# Altium schematic symbol library IC.SchLib: 311 symbols (part 1 of 3)
Pins are listed as number, name and electrical type; pins without a type are passive.

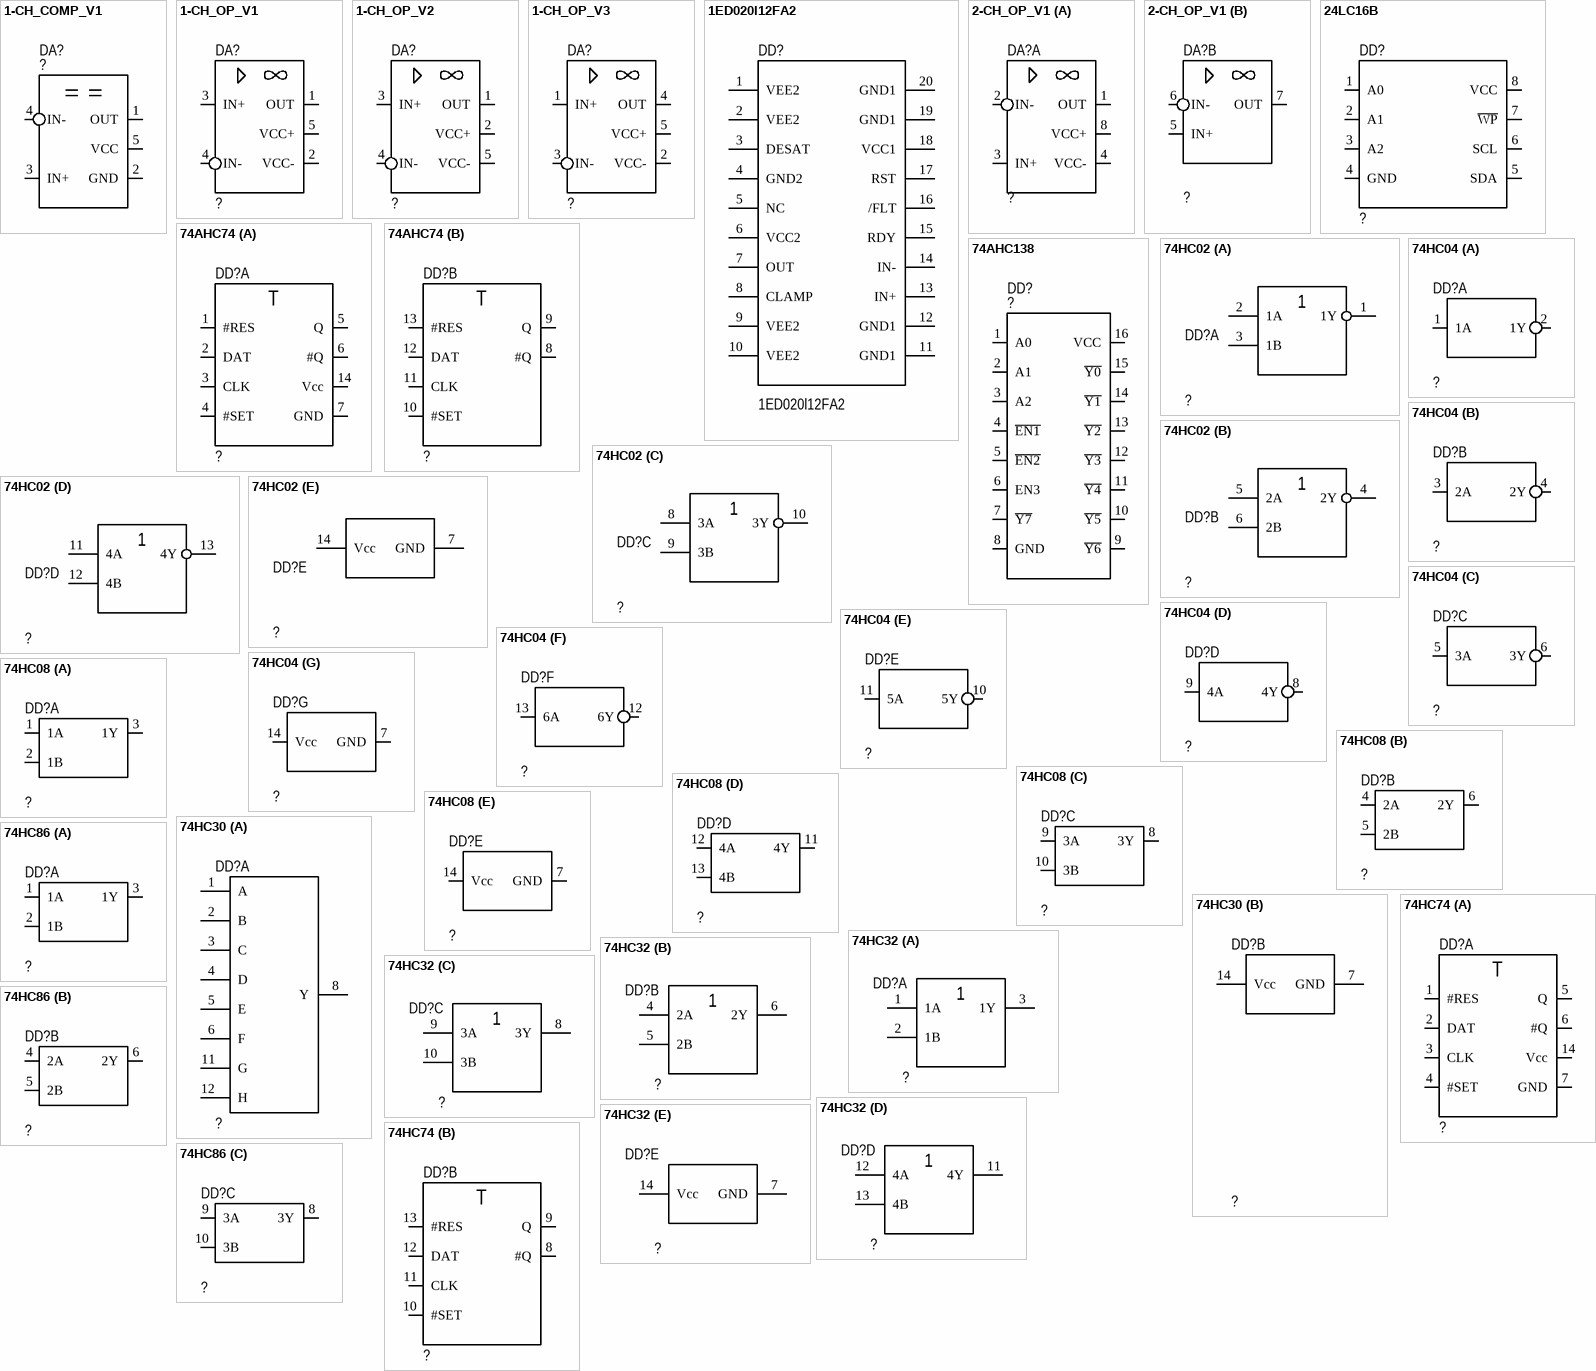
[diagram p0: symbols 1-CH_COMP_V1 to 74HC86]

## 1-CH_COMP_V1
designator DA?, comment ?
pins: 1 OUT, 2 GND, 3 IN+, 4 IN-, 5 VCC
1 alternate drawing of the same symbol

## 1-CH_OP_V1
designator DA?, comment ?
ОУ
pins: 1 OUT, 2 VСС-, 3 IN+, 4 IN-, 5 VСС+
1 alternate drawing of the same symbol

## 1-CH_OP_V2
designator DA?, comment ?
ОУ
pins: 1 OUT, 2 VСС+, 3 IN+, 4 IN-, 5 VСС-
1 alternate drawing of the same symbol

## 1-CH_OP_V3
designator DA?, comment ?
ОУ
pins: 1 IN+, 2 VСС-, 3 IN-, 4 OUT, 5 VСС+
1 alternate drawing of the same symbol

## 1ED020l12FA2
designator DD?
Manufacturer: Analog Device; Type: ADuM1401ARW
pins: 1 VEE2, 2 VEE2, 3 DESAT, 4 GND2, 5 NC, 6 VCC2, 7 OUT, 8 CLAMP, 9 VEE2, 10 VEE2, 11 GND1, 12 GND1, 13 IN+, 14 IN-, 15 RDY, 16 /FLT, 17 RST, 18 VCC1, 19 GND1, 20 GND1

## 2-CH_OP_V1
designator DA?, comment ?
ОУ; Case/Code: SOIC-8
part A pins: 1 OUT, 2 IN-, 3 IN+, 4 VСС-, 8 VСС+
part B pins: 5 IN+, 6 IN-, 7 OUT
1 alternate drawing of the same symbol

## 24LC16B
designator DD?, comment ?
EEPROM
pins: 1 A0, 2 A1, 3 A2, 4 GND, 5 SDA, 6 SCL, 7 ~{WP}, 8  VCC

## 74AHC74
designator DD?, comment ?
D-триггер
part A pins: 1 #RES, 2 DAT, 3 CLK, 4 #SET, 5 Q, 6 #Q, 7 GND, 14 Vcc
part B pins: 8 #Q, 9 Q, 10 #SET, 11 CLK, 12 DAT, 13 #RES
part A text: T
part B text: T

## 74AHC138
designator DD?, comment ?
Мультиплексор; Mfr_Name: Texas Instruments; Manufacturer_Part_Number: SN74AHC138PWR; Copyright: Copyright (C) 2023 Ultra Librarian. All rights reserved.; RefDes: RefDes; Type: DEV
footprint PW16
pins: 1 A0, 2 A1, 3 A2, 4 ~{EN1}, 5 ~{EN2}, 6 EN3, 7 ~{Y7}, 8 GND, 9 ~{Y6}, 10 ~{Y5}, 11 ~{Y4}, 12 ~{Y3}, 13 ~{Y2}, 14 ~{Y1}, 15 ~{Y0}, 16 VCC

## 74HC02
designator DD?, comment ?
part A pins: 1 1Y, 2 1A, 3 1B
part B pins: 4 2Y, 5 2A, 6 2B
part C pins: 8 3A, 9 3B, 10 3Y
part D pins: 11 4A, 12 4B, 13 4Y
part E pins: 7 GND, 14 Vcc
2 alternate drawings of the same symbol

## 74HC04
designator DD?, comment ?
part A pins: 1 1A, 2 1Y
part B pins: 3 2A, 4 2Y
part C pins: 5 3A, 6 3Y
part D pins: 8 4Y, 9 4A
part E pins: 10 5Y, 11 5A
part F pins: 12 6Y, 13 6A
part G pins: 7 GND, 14 Vcc
2 alternate drawings of the same symbol

## 74HC08
designator DD?, comment ?
part A pins: 1 1A, 2 1B, 3 1Y
part B pins: 4 2A, 5 2B, 6 2Y
part C pins: 8 3Y, 9 3A, 10 3B
part D pins: 11 4Y, 12 4A, 13 4B
part E pins: 7 GND, 14 Vcc
2 alternate drawings of the same symbol

## 74HC30
designator DD?, comment ?
part A pins: 1 A, 2 B, 3 C, 4 D, 5 E, 6 F, 8 Y, 11 G, 12 H
part B pins: 7 GND, 14 Vcc
2 alternate drawings of the same symbol

## 74HC32
designator DD?, comment ?
part A pins: 1 1A, 2 1B, 3 1Y
part B pins: 4 2A, 5 2B, 6 2Y
part C pins: 8 3Y, 9 3A, 10 3B
part D pins: 11 4Y, 12 4A, 13 4B
part E pins: 7 GND, 14 Vcc
2 alternate drawings of the same symbol

## 74HC74
designator DD?, comment ?
D-триггер
part A pins: 1 #RES, 2 DAT, 3 CLK, 4 #SET, 5 Q, 6 #Q, 7 GND, 14 Vcc
part B pins: 8 #Q, 9 Q, 10 #SET, 11 CLK, 12 DAT, 13 #RES
part A text: T
part B text: T

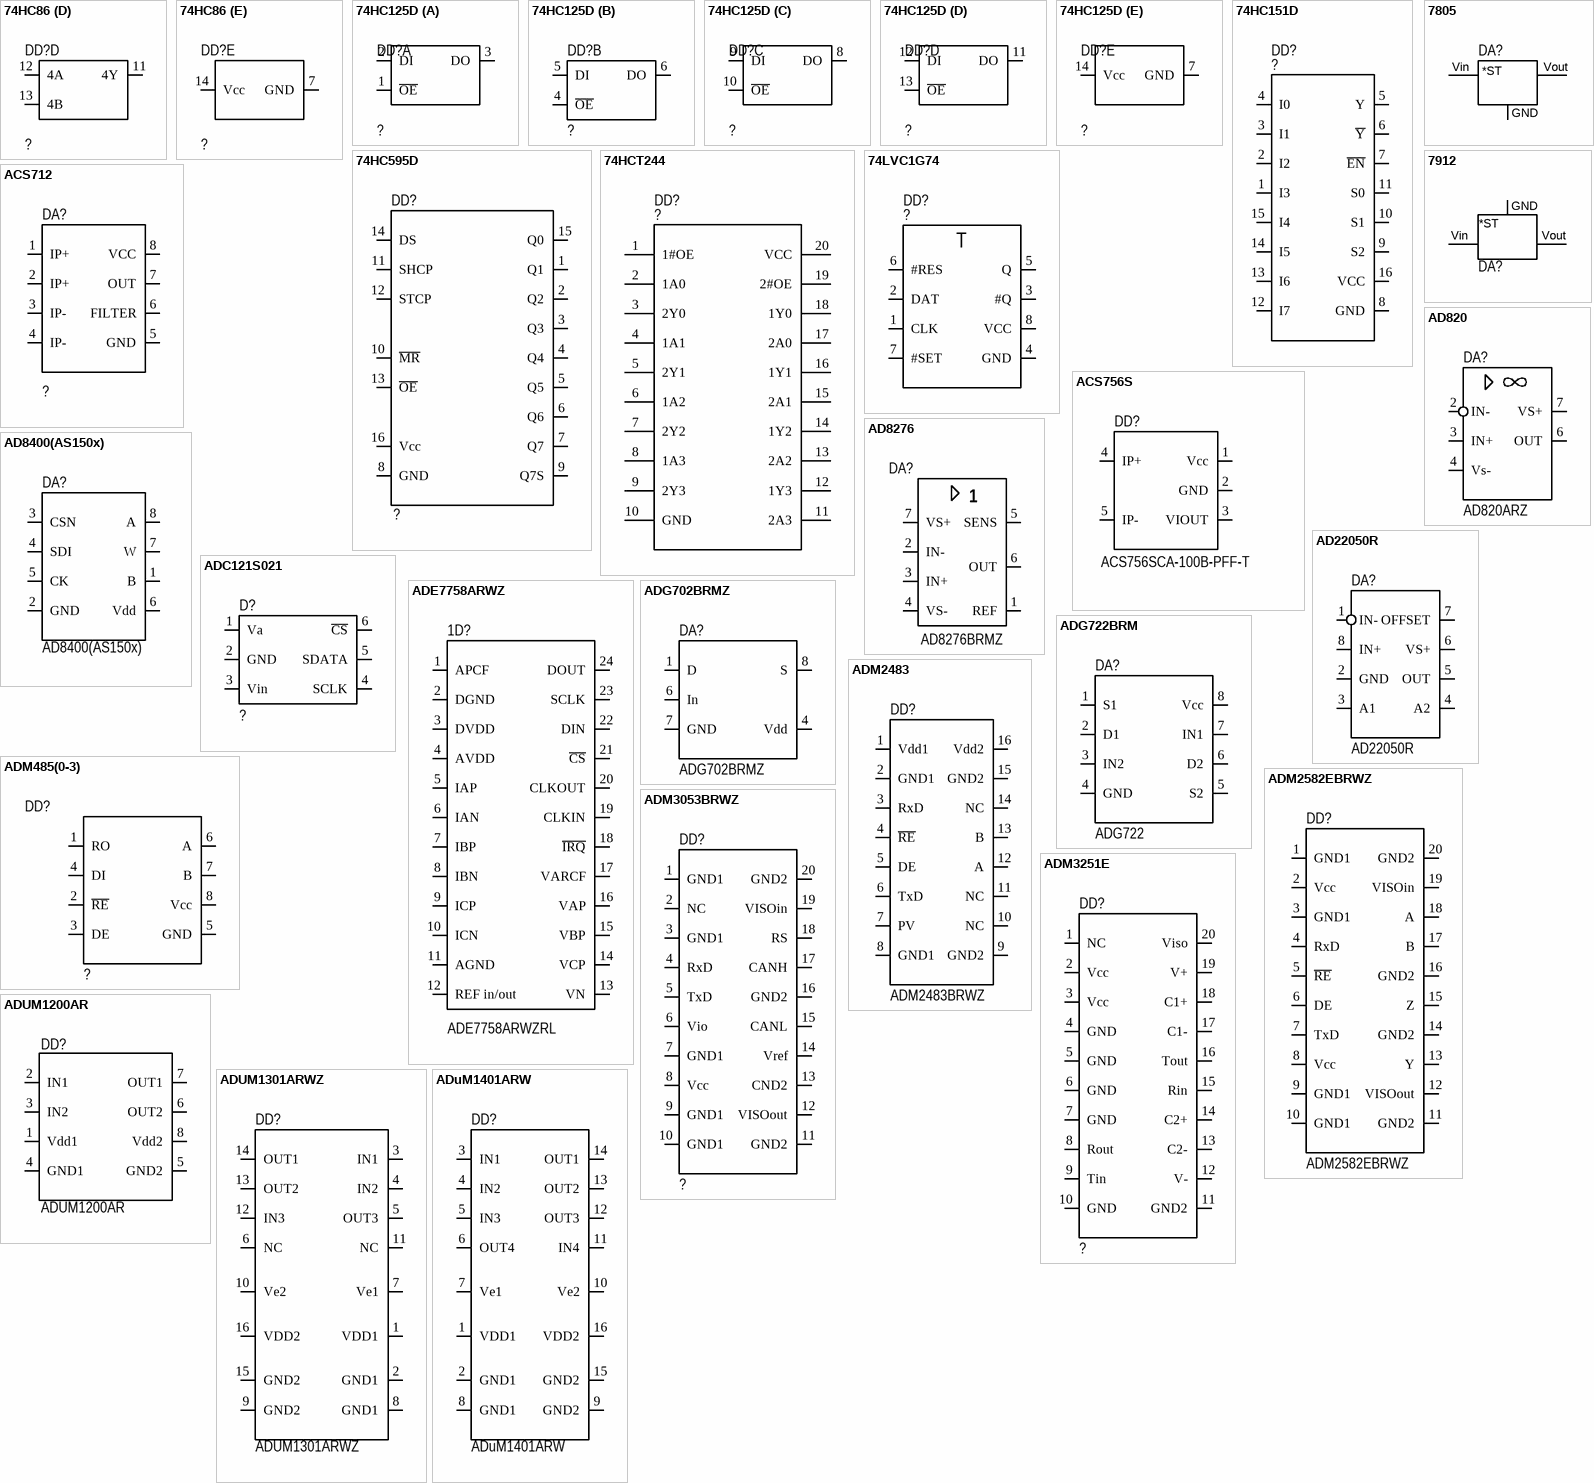
[diagram p1: symbols 74HC86 to ADuM1401ARW]

## 74HC86
designator DD?, comment ?
part A pins: 1 1A, 2 1B, 3 1Y
part B pins: 4 2A, 5 2B, 6 2Y
part C pins: 8 3Y, 9 3A, 10 3B
part D pins: 11 4Y, 12 4A, 13 4B
part E pins: 7 GND, 14 Vcc
2 alternate drawings of the same symbol

## 74HC125D
designator DD?, comment ?
part A pins: 1 ~{OE}, 2 DI, 3 DO
part B pins: 4 ~{OE}, 5 DI, 6 DO
part C pins: 8 DO, 9 DI, 10 ~{OE}
part D pins: 11 DO, 12 DI, 13 ~{OE}
part E pins: 7 GND, 14 Vcc
2 alternate drawings of the same symbol

## 74HC151D
designator DD?, comment ?
Mfr_Name: Nexperia; Manufacturer_Part_Number: 74HC151D; Copyright: Copyright (C) 2023 Ultra Librarian. All rights reserved.; RefDes: RefDes; Type: DEV
pins: 1 I3, 2 I2, 3 I1, 4 I0, 5 Y, 6 ~{Y}, 7 ~{EN}, 8 GND, 9 S2, 10 S1, 11 S0, 12 I7, 13 I6, 14 I5, 15 I4, 16 VCC

## 74HC595D
designator DD?, comment ?
Name: Микросхема
pins: 1 Q1, 2 Q2, 3 Q3, 4 Q4, 5 Q5, 6 Q6, 7 Q7, 8 GND, 9 Q7S, 10 ~{MR}, 11 SHCP, 12 STCP, 13 ~{OE}, 14 DS, 15 Q0, 16 Vcc

## 74HCT244
designator DD?, comment ?
Octal buffer/line driver; 3-state
pins: 1 1#OE, 2 1A0, 3 2Y0, 4 1A1, 5 2Y1, 6 1A2, 7 2Y2, 8 1A3, 9 2Y3, 10 GND, 11 2A3, 12 1Y3, 13 2A2, 14 1Y2, 15 2A1, 16 1Y1, 17 2A0, 18 1Y0, 19 2#OE, 20 VCC

## 74LVC1G74
designator DD?, comment ?
pins: 1 CLK, 2 DAT, 3 #Q, 4 GND, 5 Q, 6 #RES, 7 #SET, 8 VCC
1 alternate drawing of the same symbol
text: T

## 7805
designator DA?  (value not drawn)
footprint TO-220
footprint TO-220_L
footprint TO-263-3
footprint TO-252-3
pins: 1, 2, 3
text: Vin; *ST; Vout; GND

## 7912
designator DA?  (value not drawn)
footprint TO-220
footprint TO-220_L
footprint TO-263-3
footprint TO-252-3
pins: 1 GND, 2 Vin, 3 Vout
text: *ST

## ACS712
designator DA?, comment ?
pins: 1 IP+ "Noninverting Receiver Input A/Driver Output A", 2 IP+ "5 V Power Supply", 3 IP- "Ground", 4 IP- "Receiver Output", 5 GND "Driver Output Enable", 6 FILTER "Driver Output Enable", 7 OUT "Driver Output Enable", 8 VCC "Driver Output Enable"

## ACS756S
designator DD?, comment ACS756SCA-100B-PFF-T
footprint Package CA(PFF,5pin)
pins: 1 Vcc "Noninverting Receiver Input A/Driver Output A", 2 GND "5 V Power Supply", 3 VIOUT "Ground", 4 IP+ "Receiver Output", 5 IP- "Driver Output Enable"

## AD820
designator DA?, comment AD820ARZ
Операционный усилитель, однополярное питание, Rail-to-Rail,  Low Power, FET Input Op Amp
footprint MSOP8
footprint SO8_2 (SOIC, 8-Leads, Body 4.9x3.9mm, Pitch 1.27mm, IPC Medium Density)
pins: 2 IN-, 3 IN+, 4 Vs-, 6 OUT (oc), 7 VS+

## AD8276
designator DA?, comment AD8276BRMZ
Дифференциальный усилитель
footprint MSOP8
pins: 1 REF, 2 IN-, 3 IN+, 4 VS-, 5 SENS, 6 OUT (oc), 7 VS+

## AD8400(AS150x)
designator DA?
Type: SO-8
footprint SO8_2 (SOIC, 8-Leads, Body 4.9x3.9mm, Pitch 1.27mm, IPC Medium Density)
footprint DIP-8
pins: 1 B "Receiver Output", 2 GND "Receiver Output Enable", 3 CSN "Driver Output Enable", 4 SDI "Driver Input", 5 CK "Ground", 6 Vdd "5 V Power Supply", 7 W "Noninverting Receiver Input A/Driver Output A", 8 A "Inverting Receiver Input B/Driver Output B"

## AD22050R
designator DA?
pins: 1 IN-, 2 GND, 3 A1, 4 A2, 5 OUT (oc), 6 VS+, 7 OFFSET, 8 IN+

## ADC121S021
designator D?, comment ?
footprint SOT-23-5(3-2)
pins: 1 Va, 2 GND, 3 Vin, 4 SCLK, 5 SDATA, 6 ~{CS}

## ADE7758ARWZ
designator 1D?, comment ADE7758ARWZRL
ComponentLink1Description: DataSheet (TI); ComponentLink1URL: http://www.ti.com/lit/ds/symlink/am26ls31.pdf
pins: 1 APCF, 2 DGND, 3 DVDD, 4 AVDD, 5 IAP, 6 IAN, 7 IBP, 8 IBN, 9 ICP, 10 ICN, 11 AGND, 12 REF in/out, 13 VN, 14 VCP, 15 VBP, 16 VAP, 17 VARCF, 18 ~{IRQ}, 19 CLKIN, 20 CLKOUT, 21 ~{CS}, 22 DIN, 23 SCLK, 24 DOUT

## ADG702BRMZ
designator DA?
Низковольтный однополюсный однопозиционный переключатель; Type: MSOP-8
footprint MSOP8
pins: 1 D, 4 Vdd, 6 In, 7 GND, 8 S

## ADG722BRM
designator DA?, comment ADG722
Manufacturer: Analog Device; Type: ADG722BRM
footprint MSOP8
pins: 1 S1 "Driver Input", 2 D1 "Ground", 3 IN2 "Ground", 4 GND "Ground", 5 S2 "Ground", 6 D2 "Ground", 7 IN1 "Ground", 8 Vcc "Ground"

## ADM485(0-3)
designator DD?, comment ?
pins: 1 RO "Receiver Output", 2 ~{RE} "Receiver Output Enable", 3 DE "Driver Output Enable", 4 DI "Driver Input", 5 GND "Ground", 6 A "Noninverting Receiver Input A/Driver Output A", 7 B "Inverting Receiver Input B/Driver Output B", 8 Vcc "5 V Power Supply"
1 alternate drawing of the same symbol

## ADM2483
designator DD?, comment ADM2483BRWZ
Type: SOICW-16
footprint WSO16 (SOIC, 16-Leads, Body 10.3x7.5mm, Pitch 1.27mm)
pins: 1 Vdd1 "Receiver Output", 2 GND1 "Receiver Output Enable", 3 RxD "Driver Input", 4 ~{RE} "Receiver Output Enable", 5 DE "Driver Output Enable", 6 TxD "Driver Input", 7 PV "Driver Input", 8 GND1 "Ground", 9 GND2 "Ground", 10 NC "Driver Input", 11 NC "Driver Input", 12 A "Noninverting Receiver Input A/Driver Output A", 13 B "Inverting Receiver Input B/Driver Output B", 14 NC "Driver Input", 15 GND2 "Ground", 16 Vdd2 "5 V Power Supply"
1 alternate drawing of the same symbol

## ADM2582EBRWZ
designator DD?
Type: SOICW-16
footprint WSO20_2 (SOIC, 20-Leads, Body 10.3x7.5mm, Pitch 1.27mm)
pins: 1 GND1 "Receiver Output", 2 Vcc "Receiver Output Enable", 3 GND1 "Driver Input", 4 RxD "Receiver Output Enable", 5 ~{RE} "Driver Output Enable", 6 DE "Driver Input", 7 TxD "Driver Input", 8 Vcc "Ground", 9 GND1 "Ground", 10 GND1 "Ground", 11 GND2 "Ground", 12 VISOout "Ground", 13 Y "Ground", 14 GND2 "Ground", 15 Z "Ground", 16 GND2 "Ground", 17 B "Ground", 18 A "Ground", 19 VISOin "Ground", 20 GND2 "Ground"
1 alternate drawing of the same symbol

## ADM3053BRWZ
designator DD?, comment ?
pins: 1 GND1 "Receiver Output", 2 NC "Receiver Output Enable", 3 GND1 "Driver Input", 4 RxD "Receiver Output Enable", 5 TxD "Driver Output Enable", 6 Vio "Driver Input", 7 GND1 "Driver Input", 8 Vcc "Ground", 9 GND1 "Ground", 10 GND1 "Ground", 11 GND2 "Ground", 12 VISOout "Ground", 13 CND2 "Ground", 14 Vref "Ground", 15 CANL "Ground", 16 GND2 "Ground", 17 CANH "Ground", 18 RS "Ground", 19 VISOin "Ground", 20 GND2 "Ground"
1 alternate drawing of the same symbol

## ADM3251E
designator DD?, comment ?
pins: 1 NC "Receiver Output", 2 Vcc "Receiver Output Enable", 3 Vcc "Driver Input", 4 GND "Receiver Output Enable", 5 GND "Receiver Output Enable", 6 GND "Receiver Output Enable", 7 GND "Receiver Output Enable", 8 Rout "Ground", 9 Tin "Ground", 10 GND "Ground", 11 GND2 "Ground", 12 V- "Ground", 13 C2- "Ground", 14 C2+ "Ground", 15 Rin "Ground", 16 Tout "Ground", 17 C1- "Ground", 18 C1+ "Ground", 19 V+ "Ground", 20 Viso "Ground"
1 alternate drawing of the same symbol

## ADUM1200AR
designator DD?
Dual-Channel Digital Isolator; Type: SO-8
footprint SO8_2 (SOIC, 8-Leads, Body 4.9x3.9mm, Pitch 1.27mm, IPC Medium Density)
pins: 1 Vdd1, 2 IN1 (power), 3 IN2 (power), 4 GND1, 5 GND2, 6 OUT2 (oc), 7 OUT1, 8 Vdd2

## ADUM1301ARWZ
designator DD?
Трехканальный цифровой изолятор; Manufacturer: Analog Device; Type: ADUM1301ARWZ
footprint WSO16 (SOIC, 16-Leads, Body 10.3x7.5mm, Pitch 1.27mm)
pins: 1 VDD1, 2 GND1, 3 IN1, 4 IN2, 5 OUT3, 6 NC, 7 Ve1, 8 GND1, 9 GND2, 10 Ve2, 11 NC, 12 IN3, 13 OUT2, 14 OUT1, 15 GND2, 16 VDD2

## ADuM1401ARW
designator DD?
Manufacturer: Analog Device; Type: ADuM1401ARW
footprint WSO16 (SOIC, 16-Leads, Body 10.3x7.5mm, Pitch 1.27mm)
pins: 1 VDD1, 2 GND1, 3 IN1, 4 IN2, 5 IN3, 6 OUT4, 7 Ve1, 8 GND1, 9 GND2, 10 Ve2, 11 IN4, 12 OUT3, 13 OUT2, 14 OUT1, 15 GND2, 16 VDD2

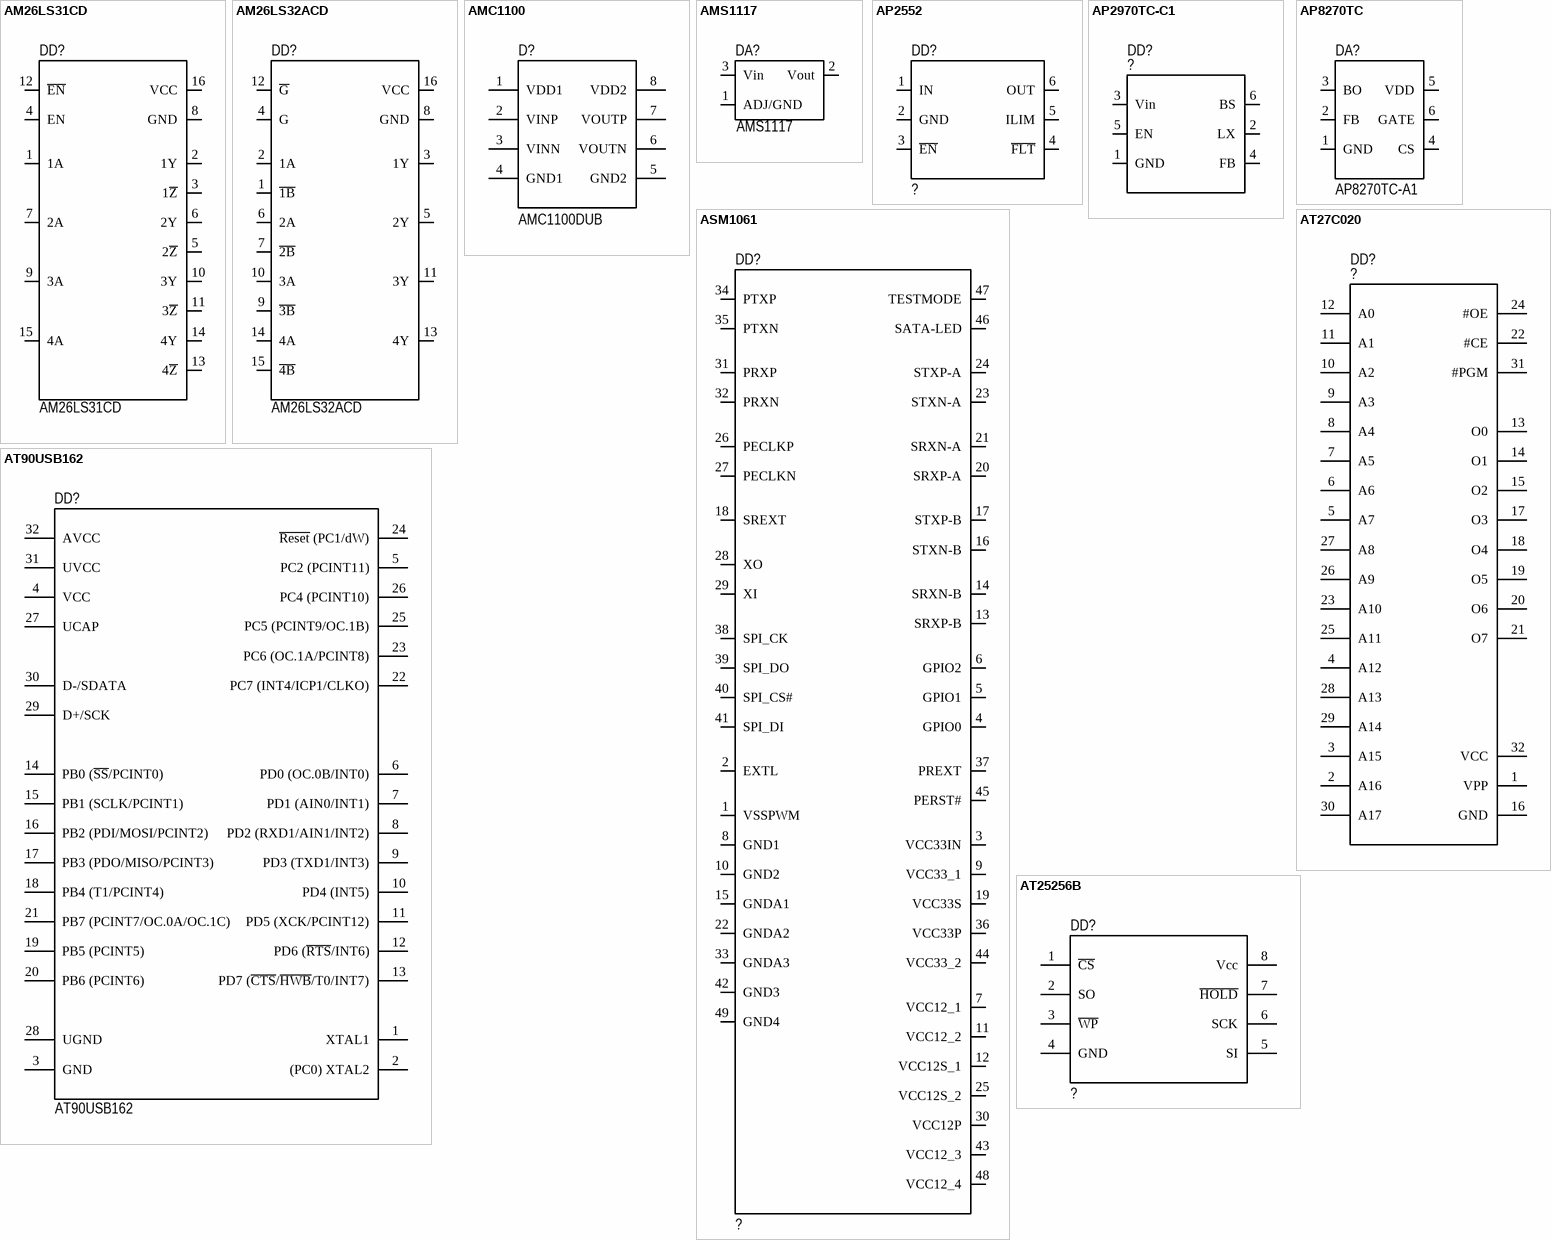
[diagram p2: symbols AM26LS31CD to AT25256B]

## AM26LS31CD
designator DD?
Драйвер дифференциальной линии 4-х канальный (RS-422); ComponentLink1Description: DataSheet (TI); ComponentLink1URL: http://www.ti.com/lit/ds/symlink/am26ls31.pdf
footprint SO16 (SO16: plastic small outline package; 16 leads; body width 3.9 mm)
pins: 1 1A, 2 1Y, 3 1~{Z}, 4 EN, 5 2~{Z}, 6 2Y, 7 2A, 8 GND, 9 3A, 10 3Y, 11 3~{Z}, 12 ~{EN}, 13 4~{Z}, 14 4Y, 15 4A, 16 VCC

## AM26LS32ACD
designator DD?
Драйвер дифференциальной линии 4-х канальный (RS-422) (приемник); ComponentLink1Description: DataSheet (TI); ComponentLink1URL: http://www.ti.com/lit/ds/symlink/am26ls31.pdf
footprint SO16 (SO16: plastic small outline package; 16 leads; body width 3.9 mm)
pins: 1 ~{1B}, 2 1A, 3 1Y, 4 G, 5 2Y, 6 2A, 7 ~{2B}, 8 GND, 9 ~{3B}, 10 3A, 11 3Y, 12 ~{G}, 13 4Y, 14 4A, 15 ~{4B}, 16 VCC

## AMC1100
designator D?, comment AMC1100DUB
pins: 1 VDD1, 2 VINP, 3 VINN, 4 GND1, 5 GND2, 6 VOUTN, 7 VOUTP, 8 VDD2

## AMS1117
designator DA?
footprint TO-252-3
footprint SOT-223
pins: 1 ADJ/GND, 2 Vout, 3 Vin

## AP2552
designator DD?, comment ?
pins: 1 IN, 2 GND, 3 ~{EN}, 4 ~{FLT}, 5 ILIM, 6 OUT

## AP2970TC-C1
designator DD?, comment ?
pins: 1 GND, 2 LX, 3 Vin, 4 FB, 5 EN, 6 BS

## AP8270TC
designator DA?, comment AP8270TC-A1
pins: 1 GND, 2 FB, 3 BO, 4 CS, 5 VDD (oc), 6 GATE

## ASM1061
designator DD?, comment ?
pins: 1 VSSPWM, 2 EXTL, 3 VCC33IN, 4 GPIO0, 5 GPIO1, 6 GPIO2, 7 VCC12_1, 8 GND1, 9 VCC33_1, 10 GND2, 11 VCC12_2, 12 VCC12S_1, 13 SRXP-B, 14 SRXN-B, 15 GNDA1, 16 STXN-B, 17 STXP-B, 18 SREXT, 19 VCC33S, 20 SRXP-A, 21 SRXN-A, 22 GNDA2, 23 STXN-A, 24 STXP-A, 25 VCC12S_2, 26 PECLKP, 27 PECLKN, 28 XO, 29 XI, 30 VCC12P, 31 PRXP, 32 PRXN, 33 GNDA3, 34 PTXP, 35 PTXN, 36 VCC33P, 37 PREXT, 38 SPI_CK, 39 SPI_DO, 40 SPI_CS#, 41 SPI_DI, 42 GND3, 43 VCC12_3, 44 VCC33_2, 45 PERST#, 46 SATA-LED, 47 TESTMODE, 48 VCC12_4, 49 GND4

## AT27C020
designator DD?, comment ?
OTP EEPROM; Mfr_Name: Microchip; Manufacturer_Part_Number: AT27C020-55PU; Copyright: Copyright (C) 2023 Ultra Librarian. All rights reserved.; RefDes: RefDes; Type: DEV
pins: 1 VPP, 2 A16, 3 A15, 4 A12, 5 A7, 6 A6, 7 A5, 8 A4, 9 A3, 10 A2, 11 A1, 12 A0, 13 O0, 14 O1, 15 O2, 16 GND, 17 O3, 18 O4, 19 O5, 20 O6, 21 O7, 22 #CE, 23 A10, 24 #OE, 25 A11, 26 A9, 27 A8, 28 A13, 29 A14, 30 A17, 31 #PGM, 32 VCC

## AT90USB162
designator DD?
footprint TQFP-32 (Thin QFP, 32-Leads, Body 7x7mm, Pitch 0.8mm, IPC Medium Density)
pins: 1 XTAL1, 2 (PC0) XTAL2, 3 GND, 4 VCC, 5 PC2 (PCINT11), 6 PD0 (OC.0B/INT0), 7 PD1 (AIN0/INT1), 8 PD2 (RXD1/AIN1/INT2), 9 PD3 (TXD1/INT3), 10 PD4 (INT5), 11 PD5 (XCK/PCINT12), 12 PD6 (~{RTS}/INT6), 13 PD7 (~{CTS}/~{HWB}/T0/INT7), 14 PB0 (~{SS}/PCINT0), 15 PB1 (SCLK/PCINT1), 16 PB2 (PDI/MOSI/PCINT2), 17 PB3 (PDO/MISO/PCINT3), 18 PB4 (T1/PCINT4), 19 PB5 (PCINT5), 20 PB6 (PCINT6), 21 PB7 (PCINT7/OC.0A/OC.1C), 22 PC7 (INT4/ICP1/CLKO), 23 PC6 (OC.1A/PCINT8), 24 ~{Reset} (PC1/dW), 25 PC5 (PCINT9/OC.1B), 26 PC4 (PCINT10), 27 UCAP, 28 UGND, 29 D+/SCK, 30 D-/SDATA, 31 UVCC, 32 AVCC

## AT25256B
designator DD?, comment ?
pins: 1 ~{CS}, 2 SO, 3 ~{WP}, 4 GND, 5 SI, 6 SCK, 7 ~{HOLD}, 8  Vcc

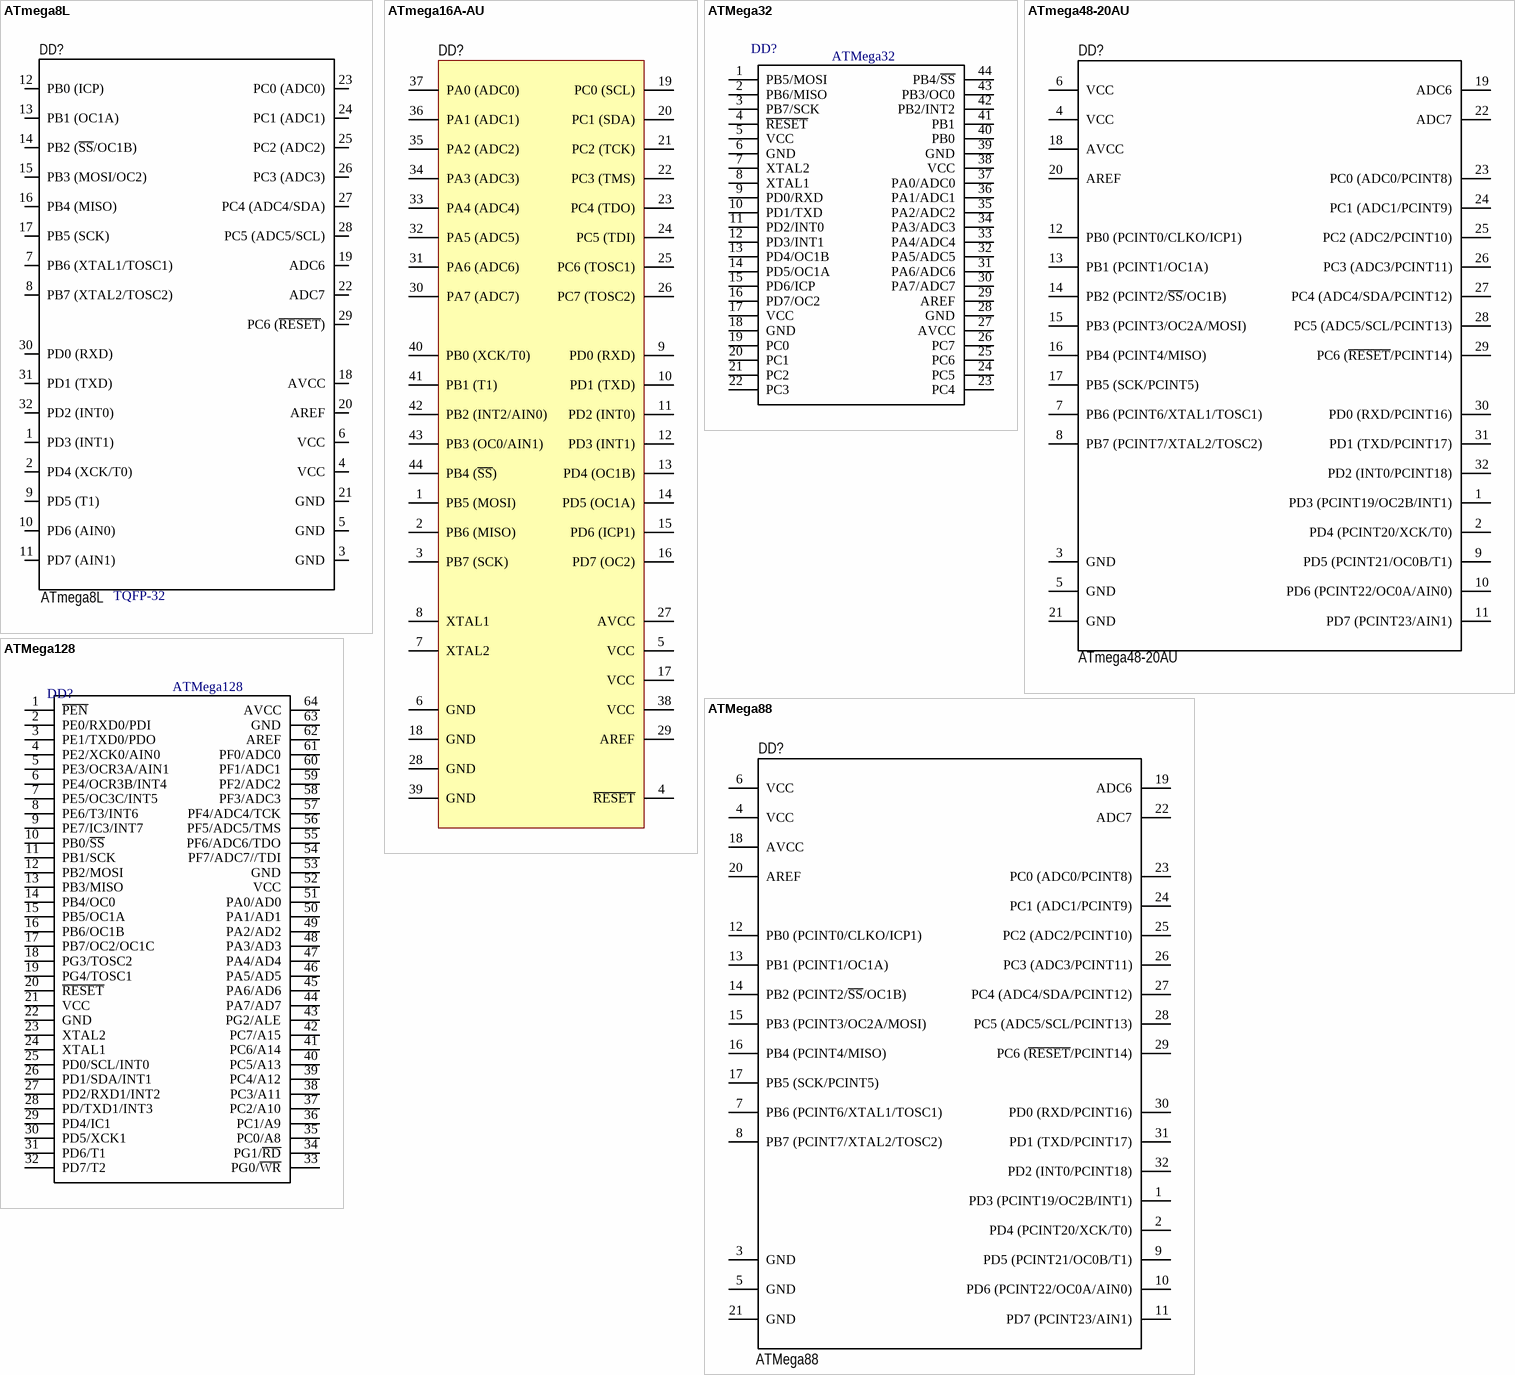
[diagram p3: symbols ATmega8L to ATMega128]

## ATmega8L
designator DD?  Type: TQFP-32
8-Bit AVR Microcontroller with 8K Bytes of In-System Programmable Flash Memory
footprint TQFP-32 (Thin QFP, 32-Leads, Body 7x7mm, Pitch 0.8mm, IPC Medium Density)
pins: 1 PD3 (INT1), 2 PD4 (XCK/T0), 3 GND, 4 VCC, 5 GND, 6 VCC, 7 PB6 (XTAL1/TOSC1), 8 PB7 (XTAL2/TOSC2), 9 PD5 (T1), 10 PD6 (AIN0), 11 PD7 (AIN1), 12 PB0 (ICP), 13 PB1 (OC1A), 14 PB2 (~{SS}/OC1B), 15 PB3 (MOSI/OC2), 16 PB4 (MISO), 17 PB5 (SCK), 18 AVCC, 19 ADC6, 20 AREF, 21 GND, 22 ADC7, 23 PC0 (ADC0), 24 PC1 (ADC1), 25 PC2 (ADC2), 26 PC3 (ADC3), 27 PC4 (ADC4/SDA), 28 PC5 (ADC5/SCL), 29 PC6 (~{RESET}), 30 PD0 (RXD), 31 PD1 (TXD), 32 PD2 (INT0)

## ATmega16A-AU
designator DD?
8-bit AVR Microcontroller, 16KB Flash, 512 Bytes EEPROM, 1KB SRAM, 44-pin TQFP, Industrial Grade (-40°C to 85°C); DatasheetVersion: revB, Jul-2009; PackageVersion: revC, Oct-2010; PackageReference: 44A; PackageDescription: 44-Pin Plastic Thin Profile Quad Flat Pack, 10 x 10 x 1.0 mm Body, 0.8 mm Pitch (TQFP); Code_JEDEC: MS-026-ACB; ComponentLink1Description: Manufacturer URL; ComponentLink1URL: http://www.atmel.com/; ComponentLink2Description: ATmega16A Datasheet; ComponentLink2URL: http://www.atmel.com/dyn/resources/prod_documents/doc8154.pdf; ComponentLink3Description: ATmega16A Summary; ComponentLink3URL: http://www.atmel.com/dyn/resources/prod_documents/8154S.pdf
footprint TQFP44
pins: 1 PB5 (MOSI), 2 PB6 (MISO), 3 PB7 (SCK), 4 ~{RESET}, 5 VCC (power), 6 GND, 7 XTAL2, 8 XTAL1, 9 PD0 (RXD), 10 PD1 (TXD), 11 PD2 (INT0), 12 PD3 (INT1), 13 PD4 (OC1B), 14 PD5 (OC1A), 15 PD6 (ICP1), 16 PD7 (OC2), 17 VCC (power), 18 GND, 19 PC0 (SCL), 20 PC1 (SDA), 21 PC2 (TCK), 22 PC3 (TMS), 23 PC4 (TDO), 24 PC5 (TDI), 25 PC6 (TOSC1), 26 PC7 (TOSC2), 27 AVCC (power), 28 GND, 29 AREF (power), 30 PA7 (ADC7), 31 PA6 (ADC6), 32 PA5 (ADC5), 33 PA4 (ADC4), 34 PA3 (ADC3), 35 PA2 (ADC2), 36 PA1 (ADC1), 37 PA0 (ADC0), 38 VCC (power), 39 GND, 40 PB0 (XCK/T0), 41 PB1 (T1), 42 PB2 (INT2/AIN0), 43 PB3 (OC0/AIN1), 44 PB4 (~{SS})

## ATMega32
designator DD?  value ATMega32  (hidden comment: *)
footprint TQFP44
pins: 1 PB5/MOSI, 2 PB6/MISO, 3 PB7/SCK, 4 ~{RESET}, 5 VCC, 6 GND, 7 XTAL2, 8 XTAL1, 9 PD0/RXD, 10 PD1/TXD, 11 PD2/INT0, 12 PD3/INT1, 13 PD4/OC1B, 14 PD5/OC1A, 15 PD6/ICP, 16 PD7/OC2, 17 VCC, 18 GND, 19 PC0, 20 PC1, 21 PC2, 22 PC3, 23 PC4, 24 PC5, 25 PC6, 26 PC7, 27 AVCC, 28 GND, 29 AREF, 30 PA7/ADC7, 31 PA6/ADC6, 32 PA5/ADC5, 33 PA4/ADC4, 34 PA3/ADC3, 35 PA2/ADC2, 36 PA1/ADC1, 37 PA0/ADC0, 38 VCC, 39 GND, 40 PB0, 41 PB1, 42 PB2/INT2, 43 PB3/OC0, 44 PB4/~{SS}

## ATmega48-20AU
designator DD?
8-bit AVR Microcontroller, 2.7-5.5V, 20MHz, 4KB Flash, 256 Bytes EEPROM, 512 Bytes SRAM, 32-pin TQFP, Industrial Grade (-40°C to 85°C); Type: TQFP-32
footprint TQFP32
pins: 1 PD3 (PCINT19/OC2B/INT1), 2 PD4 (PCINT20/XCK/T0), 3 GND (power), 4 VCC (power), 5 GND (power), 6 VCC (power), 7 PB6 (PCINT6/XTAL1/TOSC1), 8 PB7 (PCINT7/XTAL2/TOSC2), 9 PD5 (PCINT21/OC0B/T1), 10 PD6 (PCINT22/OC0A/AIN0), 11 PD7 (PCINT23/AIN1), 12 PB0 (PCINT0/CLKO/ICP1), 13 PB1 (PCINT1/OC1A), 14 PB2 (PCINT2/~{SS}/OC1B), 15 PB3 (PCINT3/OC2A/MOSI), 16 PB4 (PCINT4/MISO), 17 PB5 (SCK/PCINT5), 18 AVCC (power), 19 ADC6, 20 AREF, 21 GND (power), 22 ADC7, 23 PC0 (ADC0/PCINT8), 24 PC1 (ADC1/PCINT9), 25 PC2 (ADC2/PCINT10), 26 PC3 (ADC3/PCINT11), 27 PC4 (ADC4/SDA/PCINT12), 28 PC5 (ADC5/SCL/PCINT13), 29 PC6 (~{RESET}/PCINT14), 30 PD0 (RXD/PCINT16), 31 PD1 (TXD/PCINT17), 32 PD2 (INT0/PCINT18)

## ATMega88
designator DD?  value ATMega88
footprint TQFP32
pins: 1 PD3 (PCINT19/OC2B/INT1), 2 PD4 (PCINT20/XCK/T0), 3 GND (power), 4 VCC (power), 5 GND (power), 6 VCC (power), 7 PB6 (PCINT6/XTAL1/TOSC1), 8 PB7 (PCINT7/XTAL2/TOSC2), 9 PD5 (PCINT21/OC0B/T1), 10 PD6 (PCINT22/OC0A/AIN0), 11 PD7 (PCINT23/AIN1), 12 PB0 (PCINT0/CLKO/ICP1), 13 PB1 (PCINT1/OC1A), 14 PB2 (PCINT2/~{SS}/OC1B), 15 PB3 (PCINT3/OC2A/MOSI), 16 PB4 (PCINT4/MISO), 17 PB5 (SCK/PCINT5), 18 AVCC (power), 19 ADC6, 20 AREF, 21 GND (power), 22 ADC7, 23 PC0 (ADC0/PCINT8), 24 PC1 (ADC1/PCINT9), 25 PC2 (ADC2/PCINT10), 26 PC3 (ADC3/PCINT11), 27 PC4 (ADC4/SDA/PCINT12), 28 PC5 (ADC5/SCL/PCINT13), 29 PC6 (~{RESET}/PCINT14), 30 PD0 (RXD/PCINT16), 31 PD1 (TXD/PCINT17), 32 PD2 (INT0/PCINT18)

## ATMega128
designator DD?  value ATMega128  (hidden comment: *)
footprint TQFP64
pins: 1 ~{PEN}, 2 PE0/RXD0/PDI, 3 PE1/TXD0/PDO, 4 PE2/XCK0/AIN0, 5 PE3/OCR3A/AIN1, 6 PE4/OCR3B/INT4, 7 PE5/OC3C/INT5, 8 PE6/T3/INT6, 9 PE7/IC3/INT7, 10 PB0/~{SS}, 11 PB1/SCK, 12 PB2/MOSI, 13 PB3/MISO, 14 PB4/OC0, 15 PB5/OC1A, 16 PB6/OC1B, 17 PB7/OC2/OC1C, 18 PG3/TOSC2, 19 PG4/TOSC1, 20 ~{RESET}, 21 VCC, 22 GND, 23 XTAL2, 24 XTAL1, 25 PD0/SCL/INT0, 26 PD1/SDA/INT1, 27 PD2/RXD1/INT2, 28 PD/TXD1/INT3, 29 PD4/IC1, 30 PD5/XCK1, 31 PD6/T1, 32 PD7/T2, 33 PG0/~{WR}, 34 PG1/~{RD}, 35 PC0/A8, 36 PC1/A9, 37 PC2/A10, 38 PC3/A11, 39 PC4/A12, 40 PC5/A13, 41 PC6/A14, 42 PC7/A15, 43 PG2/ALE, 44 PA7/AD7, 45 PA6/AD6, 46 PA5/AD5, 47 PA4/AD4, 48 PA3/AD3, 49 PA2/AD2, 50 PA1/AD1, 51 PA0/AD0, 52 VCC, 53 GND, 54 PF7/ADC7//TDI, 55 PF6/ADC6/TDO, 56 PF5/ADC5/TMS, 57 PF4/ADC4/TCK, 58 PF3/ADC3, 59 PF2/ADC2, 60 PF1/ADC1, 61 PF0/ADC0, 62 AREF, 63 GND, 64 AVCC

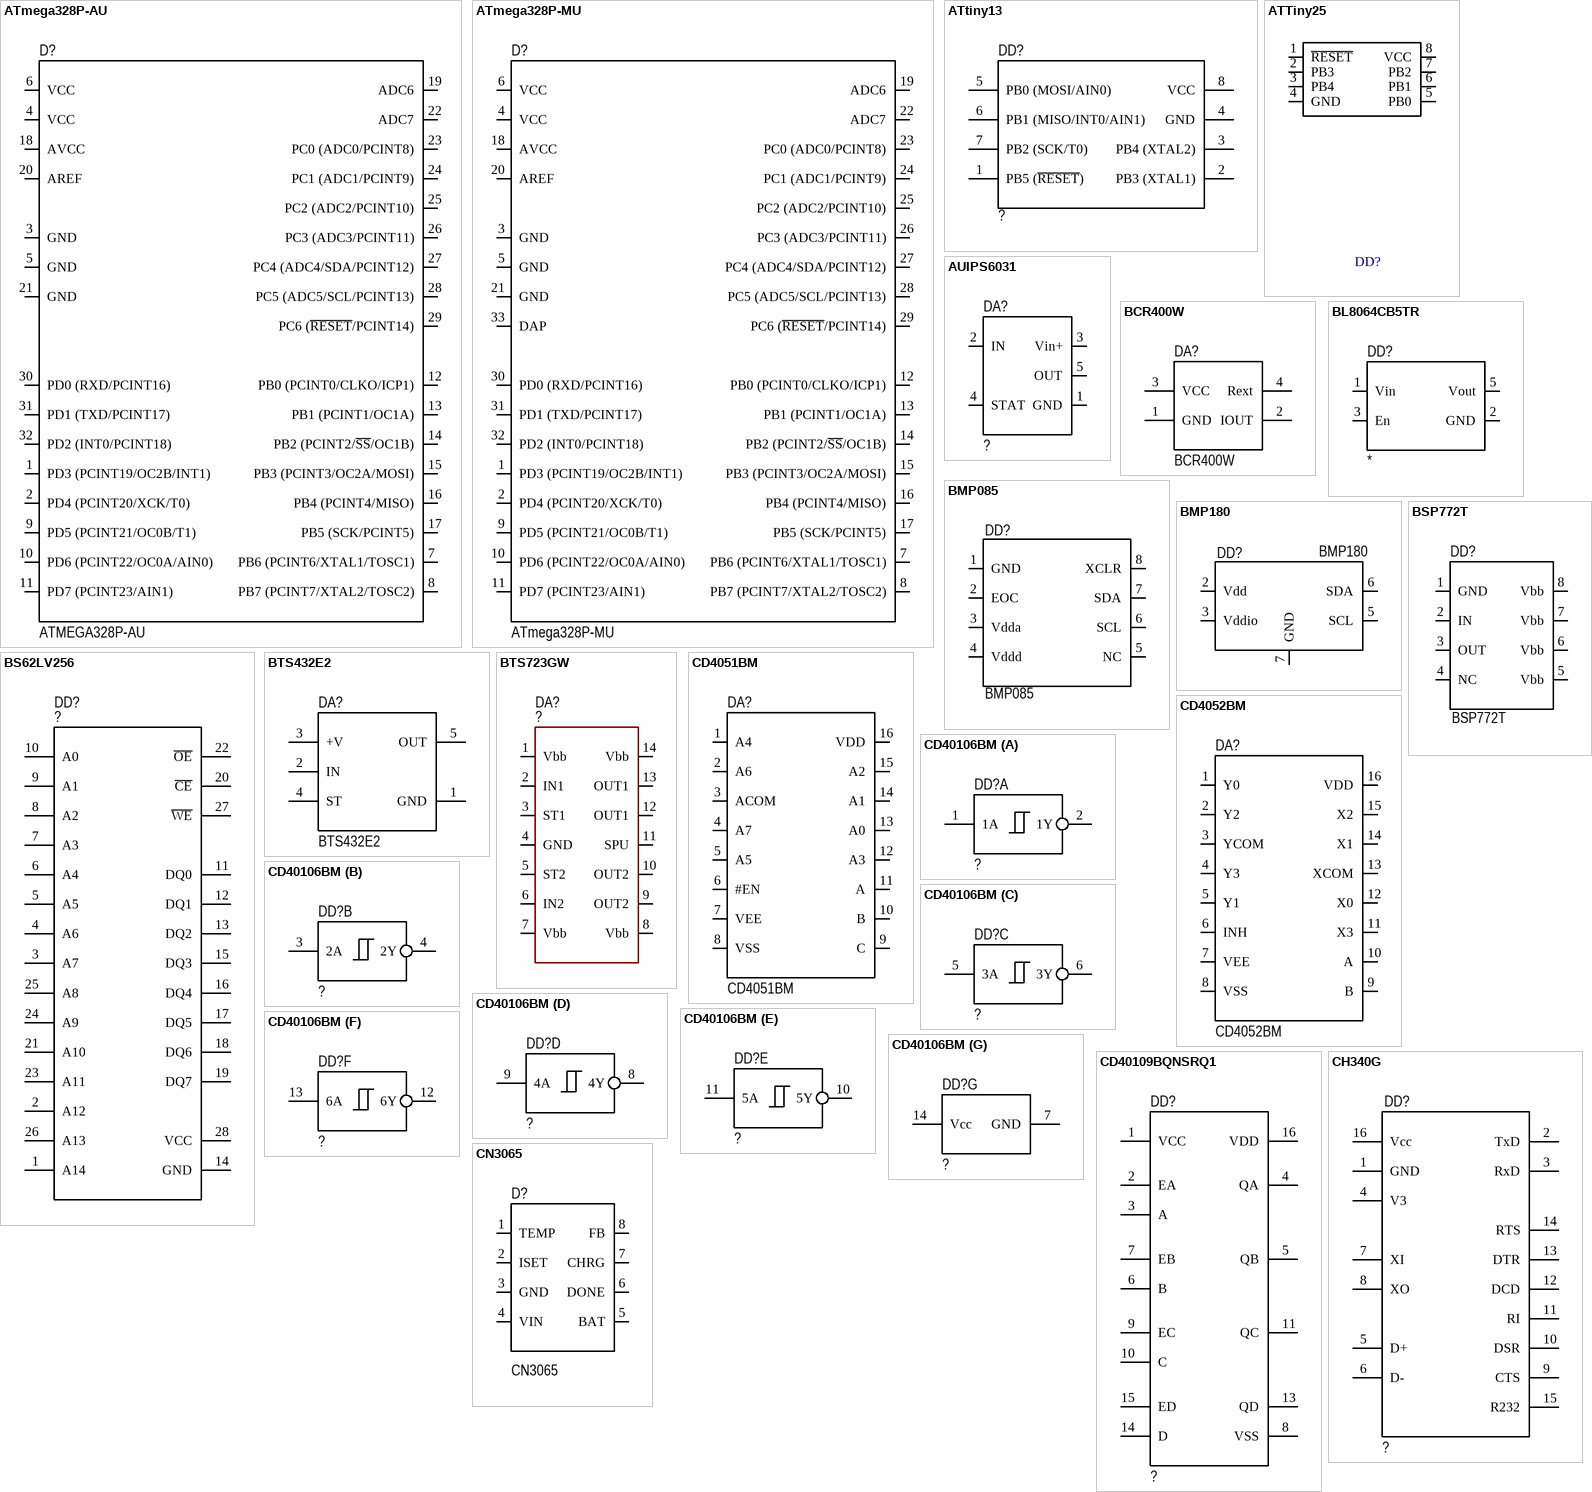
[diagram p4: symbols ATmega328P-AU to CN3065]

## ATmega328P-AU
designator D?, comment ATMEGA328P-AU
pins: 1 PD3 (PCINT19/OC2B/INT1), 2 PD4 (PCINT20/XCK/T0), 3 GND (power), 4 VCC (power), 5 GND (power), 6 VCC (power), 7 PB6 (PCINT6/XTAL1/TOSC1), 8 PB7 (PCINT7/XTAL2/TOSC2), 9 PD5 (PCINT21/OC0B/T1), 10 PD6 (PCINT22/OC0A/AIN0), 11 PD7 (PCINT23/AIN1), 12 PB0 (PCINT0/CLKO/ICP1), 13 PB1 (PCINT1/OC1A), 14 PB2 (PCINT2/~{SS}/OC1B), 15 PB3 (PCINT3/OC2A/MOSI), 16 PB4 (PCINT4/MISO), 17 PB5 (SCK/PCINT5), 18 AVCC (power), 19 ADC6, 20 AREF, 21 GND (power), 22 ADC7, 23 PC0 (ADC0/PCINT8), 24 PC1 (ADC1/PCINT9), 25 PC2 (ADC2/PCINT10), 26 PC3 (ADC3/PCINT11), 27 PC4 (ADC4/SDA/PCINT12), 28 PC5 (ADC5/SCL/PCINT13), 29 PC6 (~{RESET}/PCINT14), 30 PD0 (RXD/PCINT16), 31 PD1 (TXD/PCINT17), 32 PD2 (INT0/PCINT18)

## ATmega328P-MU
designator D?
8-bit AVR Microcontroller, 32KB Flash, 1KB EEPROM, 2KB SRAM, 32-pin MLF, Industrial Grade (-40°C to 85°C)
footprint VQFN-32 (QFN, 32-Leads, Body 5x5mm, Pitch 0.5mm, Thermal Pad 3.3x3.3mm, IPC Medium Density)
pins: 1 PD3 (PCINT19/OC2B/INT1), 2 PD4 (PCINT20/XCK/T0), 3 GND (power), 4 VCC (power), 5 GND (power), 6 VCC (power), 7 PB6 (PCINT6/XTAL1/TOSC1), 8 PB7 (PCINT7/XTAL2/TOSC2), 9 PD5 (PCINT21/OC0B/T1), 10 PD6 (PCINT22/OC0A/AIN0), 11 PD7 (PCINT23/AIN1), 12 PB0 (PCINT0/CLKO/ICP1), 13 PB1 (PCINT1/OC1A), 14 PB2 (PCINT2/~{SS}/OC1B), 15 PB3 (PCINT3/OC2A/MOSI), 16 PB4 (PCINT4/MISO), 17 PB5 (SCK/PCINT5), 18 AVCC (power), 19 ADC6, 20 AREF, 21 GND (power), 22 ADC7, 23 PC0 (ADC0/PCINT8), 24 PC1 (ADC1/PCINT9), 25 PC2 (ADC2/PCINT10), 26 PC3 (ADC3/PCINT11), 27 PC4 (ADC4/SDA/PCINT12), 28 PC5 (ADC5/SCL/PCINT13), 29 PC6 (~{RESET}/PCINT14), 30 PD0 (RXD/PCINT16), 31 PD1 (TXD/PCINT17), 32 PD2 (INT0/PCINT18), 33 DAP (power)

## ATtiny13
designator DD?, comment ?
Value: ATtiny13; Type: SOIC8
footprint 8S2 (8-lead, 0.209" Wide, Plastic Small Outline Package (EIAJ SOIC))
pins: 1 PB5 (~{RESET}), 2 PB3 (XTAL1), 3 PB4 (XTAL2), 4 GND, 5 PB0 (MOSI/AIN0), 6 PB1 (MISO/INT0/AIN1), 7 PB2 (SCK/T0), 8 VCC

## ATTiny25
designator DD?
Value: ATTiny25
footprint EIAJ
pins: 1 ~{RESET}, 2 PB3, 3 PB4, 4 GND, 5 PB0, 6 PB1, 7 PB2, 8 VCC

## AUIPS6031
designator DA?, comment ?
pins: 1 GND, 2 IN, 3 Vin+, 4 STAT, 5 OUT
1 alternate drawing of the same symbol

## BCR400W
designator DA?
Источник тока
pins: 1 GND, 2 IOUT, 3 VCC, 4 Rext
1 alternate drawing of the same symbol

## BL8064CB5TR
designator DD?
pins: 1 Vin, 2 GND, 3 En, 5 Vout

## BMP085
designator DD?
Digital, barometric pressure sensor; About: Цифровой датчик атмосферного давления; Type: LCC8
footprint BMP085 (LCC8) (8-lead, 0.209" Wide, Plastic Small Outline Package (EIAJ SOIC))
pins: 1 GND (oc), 2 EOC, 3 Vdda, 4 Vddd (power), 5 NC, 6 SCL, 7 SDA, 8 XCLR (power)

## BMP180
designator DD?
Digital, barometric pressure sensor; About: Цифровой датчик атмосферного давления; Type: LGA7
footprint BMP180 (LGA7) (7Pin LGA package with metal lid)
pins: 2 Vdd, 3 Vddio, 5 SCL, 6 SDA, 7 GND (power)

## BS62LV256
designator DD?, comment ?
MP: BS62LV256SCG70; MF: Brilliance Semiconductor; Price: None; Availability: Not in stock; Package: SOIC-28 Brilliance Semiconductor; Value: *; SnapEDA_Link: https://www.snapeda.com/parts/BS62LV256SCG70/Brilliance+Semiconductor/view-part/?ref=snap; Check_prices: https://www.snapeda.com/parts/BS62LV256SCG70/Brilliance+Semiconductor/view-part/?ref=eda
footprint SOP127P1181X284-28N
pins: 1 A14, 2 A12, 3 A7, 4 A6, 5 A5, 6 A4, 7 A3, 8 A2, 9 A1, 10 A0, 11 DQ0, 12 DQ1, 13 DQ2, 14 GND, 15 DQ3, 16 DQ4, 17 DQ5, 18 DQ6, 19 DQ7, 20 ~{CE}, 21 A10, 22 ~{OE}, 23 A11, 24 A9, 25 A8, 26 A13, 27 ~{WE}, 28 VCC

## BSP772T
designator DD?
footprint SO8_2 (SOIC, 8-Leads, Body 4.9x3.9mm, Pitch 1.27mm, IPC Medium Density)
pins: 1 GND "Receiver Output", 2 IN "Receiver Output", 3 OUT "Receiver Output", 4 NC "Receiver Output", 5 Vbb "Noninverting Receiver Input A/Driver Output A", 6 Vbb "Noninverting Receiver Input A/Driver Output A", 7 Vbb "Noninverting Receiver Input A/Driver Output A", 8 Vbb "Noninverting Receiver Input A/Driver Output A"

## BTS432E2
designator DA?
Smart Highside Power Switch
pins: 1 GND, 2 IN, 3 +V, 4 ST, 5 OUT

## BTS723GW
designator DA?, comment ?
pins: 1 Vbb, 2 IN1, 3 ST1, 4 GND, 5 ST2, 6 IN2, 7 Vbb, 8 Vbb, 9 OUT2, 10 OUT2, 11 SPU, 12 OUT1, 13 OUT1, 14 Vbb

## CD4051BM
designator DA?
pins: 1 A4, 2 A6, 3 ACOM, 4 A7, 5 A5, 6 #EN, 7 VEE, 8 VSS, 9 C, 10 B, 11 A, 12 A3, 13 A0, 14 A1, 15 A2, 16 VDD

## CD4052BM
designator DA?
pins: 1 Y0, 2 Y2, 3 YCOM, 4 Y3, 5 Y1, 6 INH, 7 VEE, 8 VSS, 9 B, 10 A, 11 X3, 12 X0, 13 XCOM, 14 X1, 15 X2, 16 VDD

## CD40106BM
designator DD?, comment ?
Триггер Шмитта
footprint SO14
part A pins: 1 1A, 2 1Y
part B pins: 3 2A, 4 2Y
part C pins: 5 3A, 6 3Y
part D pins: 8 4Y, 9 4A
part E pins: 10 5Y, 11 5A
part F pins: 12 6Y, 13 6A
part G pins: 7 GND, 14 Vcc
2 alternate drawings of the same symbol

## CD40109BQNSRQ1
designator DD?, comment ?
pins: 1 VCC, 2 EA, 3 A, 4 QA, 5 QB, 6 B, 7 EB, 8 VSS, 9 EC, 10 C, 11 QC, 12 NC hidden, 13 QD, 14 D, 15 ED, 16 VDD

## CH340G
designator DD?, comment ?
pins: 1 GND, 2 TxD, 3 RxD, 4 V3, 5 D+, 6 D-, 7 XI, 8 XO, 9 CTS, 10 DSR, 11 RI, 12 DCD, 13 DTR, 14 RTS, 15 R232, 16 Vcc
2 alternate drawings of the same symbol

## CN3065
designator D?
Lithium Ion Battery Charger for Solar-Powered Systems; Manufacturer: Analog Device; Type: ADG722BRM
footprint QFN8 (8-Lead Plastic DFN (3mm ? 3mm))
pins: 0 TPAD "Ground", 1 TEMP "Driver Input", 2 ISET "Ground", 3 GND "Ground", 4 VIN "Ground", 5 BAT "Ground", 6 DONE "Ground", 7 CHRG "Ground", 8 FB "Ground"

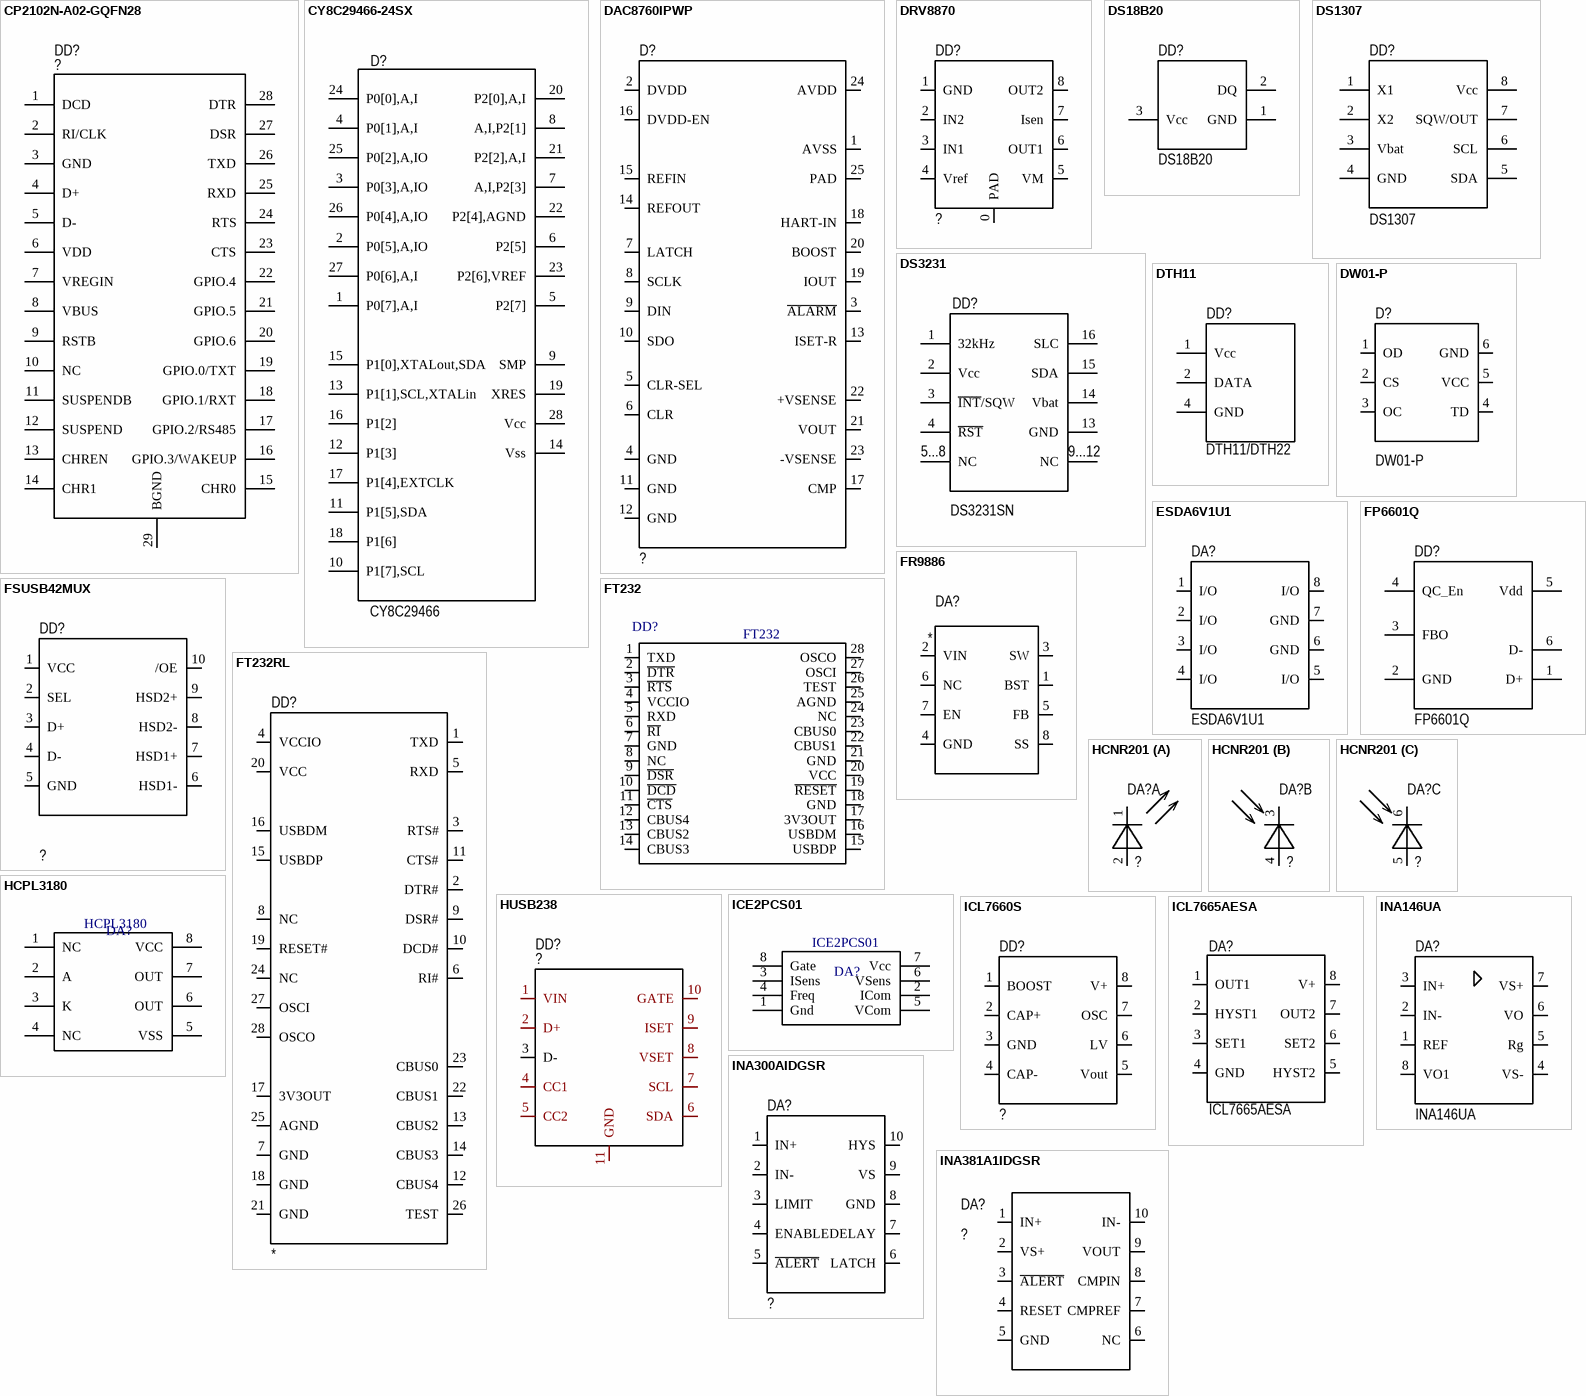
[diagram p5: symbols CP2102N-A02-GQFN28 to INA381A1IDGSR]

## CP2102N-A02-GQFN28
designator DD?, comment ?
Integrated Circuit; Manufacturer_Name: Silicon Labs; Manufacturer_Part_Number: CP2102N-A02-GQFN28; Datasheet Link: https://componentsearchengine.com/Datasheets/2/CP2102N-A02-GQFN28.pdf; Height: 0.8mm; Mouser Part Number: 634-CP2102NA02GQFN28; Mouser Price/Stock: https://www.mouser.co.uk/ProductDetail/Silicon-Labs/CP2102N-A02-GQFN28?qs=u16ybLDytRaSBkSkyjYFiA%3D%3D; Arrow Part Number: CP2102N-A02-GQFN28; Arrow Price/Stock: https://www.arrow.com/en/products/cp2102n-a02-gqfn28/silicon-labs
footprint QFN50P500X500X80-29N-D
pins: 1 DCD, 2 RI/CLK, 3 GND, 4 D+, 5 D-, 6 VDD, 7 VREGIN, 8 VBUS, 9 RSTB, 10 NC, 11 SUSPENDB, 12 SUSPEND, 13 CHREN, 14 CHR1, 15 CHR0, 16 GPIO.3/WAKEUP, 17 GPIO.2/RS485, 18 GPIO.1/RXT, 19 GPIO.0/TXT, 20 GPIO.6, 21 GPIO.5, 22 GPIO.4, 23 CTS, 24 RTS, 25 RXD, 26 TXD, 27 DSR, 28 DTR, 29 BGND (power)

## CY8C29466-24SX
designator D?, comment CY8C29466
Manufacturer: Cypress; Type: CY8C29466-24SXI
footprint SO-28
pins: 1 P0[7],A,I, 2 P0[5],A,IO, 3 P0[3],A,IO, 4 P0[1],A,I, 5 P2[7], 6 P2[5], 7 A,I,P2[3], 8 A,I,P2[1], 9 SMP, 10 P1[7],SCL, 11 P1[5],SDA, 12 P1[3], 13 P1[1],SCL,XTALin, 14 Vss, 15 P1[0],XTALout,SDA, 16 P1[2], 17 P1[4],EXTCLK, 18 P1[6], 19 XRES, 20 P2[0],A,I, 21 P2[2],A,I, 22 P2[4],AGND, 23 P2[6],VREF, 24 P0[0],A,I, 25 P0[2],A,IO, 26 P0[4],A,IO, 27 P0[6],A,I, 28 Vcc

## DAC8760IPWP
designator D?, comment ?
Single-Channel, 16-Bit Programmable Current Output and Voltage Output DIGITAL-TO-ANALOG CONVERTER for 4-mA to 20-mA Current Loop Applications, PWP0024J; ComponentLink1Description: Datasheet Link; ComponentLink1URL: http://www.ti.com/lit/ds/symlink/dac7760.pdf
pins: 1 AVSS, 2 DVDD, 3 ~{ALARM}, 4 GND, 5 CLR-SEL, 6 CLR, 7 LATCH, 8 SCLK, 9 DIN, 10 SDO, 11 GND, 12 GND, 13 ISET-R, 14 REFOUT, 15 REFIN, 16 DVDD-EN, 17 CMP, 18 HART-IN, 19 IOUT, 20 BOOST, 21 VOUT, 22 +VSENSE, 23 -VSENSE, 24 AVDD, 25 PAD

## DRV8870
designator DD?, comment ?
pins: 0 PAD, 1 GND, 2 IN2, 3 IN1, 4 Vref, 5 VM, 6 OUT1, 7 Isen, 8 OUT2

## DS18B20
designator DD?
footprint TO-92
pins: 1 GND, 2 DQ, 3 Vcc

## DS1307
designator DD?
Type: SO8
footprint SO8_2 (SOIC, 8-Leads, Body 4.9x3.9mm, Pitch 1.27mm, IPC Medium Density)
footprint DIP-8
pins: 1 X1, 2 X2, 3 Vbat, 4 GND, 5 SDA, 6 SCL, 7 SQW/OUT, 8 Vcc

## DS3231
designator DD?, comment DS3231SN
footprint WSO16 (SOIC, 16-Leads, Body 10.3x7.5mm, Pitch 1.27mm)
pins: 1 32kHz, 2 Vcc, 3 ~{INT}/SQW, 4 ~{RST}, 5 NC, 6 NC, 7 NC, 8 NC, 9 NC, 9 NC, 10 NC, 11 NC, 12 NC, 13 GND, 14 Vbat, 15 SDA, 16 SLC
2 alternate drawings of the same symbol
text: 5...8; 9...12

## DTH11
designator DD?, comment DTH11/DTH22
footprint DTHxx (Датчик температуры и влажности)
footprint DTHxx-hor (Датчик температуры и влажности)
pins: 1 Vcc, 2 DATA, 4 GND

## DW01-P
designator D?
One Cell Lithium-ion/Polymer Battery Protection IC; Manufacturer: Analog Device; Type: ADG722BRM
footprint SOT-23-6
pins: 1 OD "Driver Input", 2 CS "Ground", 3 OC "Ground", 4 TD "Ground", 5 VCC "Ground", 6 GND "Ground"

## ESDA6V1U1
designator DA?
TRANSIL ARRAY FOR ESD PROTECTION; Type: SO-8
footprint SO8_2 (SOIC, 8-Leads, Body 4.9x3.9mm, Pitch 1.27mm, IPC Medium Density)
pins: 1 I/O (power), 2 I/O (power), 3 I/O (power), 4 I/O (power), 5 I/O (power), 6 GND (power), 7 GND (power), 8 I/O (power)
1 alternate drawing of the same symbol

## FP6601Q
designator DD?
Fast charging USB Port controller; Name: Контроллер QC2.0/3.0; Type: SOT-23
footprint SOT-23-6
pins: 1 D+, 2 GND, 3 FBO, 4 QC_En, 5 Vdd, 6 D-
1 alternate drawing of the same symbol

## FR9886
designator DA?
pins: 1 BST "Ground", 2 VIN "Ground", 3 SW "Ground", 4 GND "Ground", 5 FB "Ground", 6 NC "Ground", 7 EN "Driver Input", 8 SS "Ground"

## FSUSB42MUX
designator DD?, comment ?
Undefined or Miscellaneous; Manufacturer_Name: ON Semiconductor; Manufacturer_Part_Number: FSUSB42MUX; Datasheet Link: https://componentsearchengine.com//FSUSB42MUX.pdf; Height: 1.1mm; Mouser2 Part Number: 512-FSUSB42MUX; Mouser2 Price/Stock: https://www.mouser.com/Search/Refine.aspx?Keyword=512-FSUSB42MUX
pins: 1 VCC, 2 SEL, 3 D+, 4 D-, 5 GND, 6 HSD1-, 7 HSD1+ (power), 8 HSD2-, 9 HSD2+, 10 /OE
1 alternate drawing of the same symbol

## FT232
designator DD?  value FT232  (hidden comment: *)
footprint SSOP28
pins: 1 TXD, 2 ~{DTR}, 3 ~{RTS}, 4 VCCIO, 5 RXD, 6 ~{RI}, 7 GND, 8 NC, 9 ~{DSR}, 10 ~{DCD}, 11 ~{CTS}, 12 CBUS4, 13 CBUS2, 14 CBUS3, 15 USBDP, 16 USBDM, 17 3V3OUT, 18 GND, 19 ~{RESET}, 20 VCC, 21 GND, 22 CBUS1, 23 CBUS0, 24 NC, 25 AGND, 26 TEST, 27 OSCI, 28 OSCO

## FT232RL
designator DD?
pins: 1 TXD, 2 DTR#, 3 RTS#, 4 VCCIO, 5 RXD, 6 RI#, 7 GND, 8 NC, 9 DSR#, 10 DCD#, 11 CTS#, 12 CBUS4 "SLEEP#", 13 CBUS2 "TXDEN#", 14 CBUS3 "PWREN#", 15 USBDP, 16 USBDM, 17 3V3OUT, 18 GND, 19 RESET#, 20 VCC, 21 GND, 22 CBUS1 "RXLED#", 23 CBUS0 "Configurable CBUS I/O Pin. Function of this pin is configured in the  device internal EEPROM. Factory default configuration is TXLED#. See  CBUS Signal Options, Table 3.9.", 24 NC, 25 AGND, 26 TEST, 27 OSCI, 28 OSCO

## HCNR201
designator DA?, comment ?
part A pins: 1 LED_C, 2 LED_A
part B pins: 3 PD1_C, 4 PD1_A
part C pins: 5 PD2_A, 6 PD2_C (oc)
1 alternate drawing of the same symbol

## HCPL3180
designator DA?  value HCPL3180  (hidden comment: *)
footprint HCPL3180
pins: 1 NC, 2 A, 3 K, 4 NC, 5 VSS, 6 OUT, 7 OUT, 8 VCC

## HUSB238
designator DD?, comment ?
pins: 1 VIN, 2 D+, 3 D-, 4 CC1, 5 CC2, 6 SDA, 7 SCL, 8 VSET, 9 ISET, 10 GATE, 11 GND

## ICE2PCS01
designator DA?  value ICE2PCS01  (hidden comment: *)
footprint SO8
pins: 1 Gnd, 2 ICom, 3 ISens, 4 Freq, 5 VCom, 6 VSens, 7 Vcc, 8 Gate

## ICL7660S
designator DD?, comment ?
pins: 1 BOOST "Receiver Output", 2 CAP+ "Driver Input", 3 GND "Receiver Output Enable", 4 CAP- "Driver Output Enable", 5 Vout "Ground", 6 LV "5 V Power Supply", 7 OSC "Inverting Receiver Input B/Driver Output B", 8 V+ "Noninverting Receiver Input A/Driver Output A"
1 alternate drawing of the same symbol

## ICL7665AESA
designator DA?
Схема контроля/детектор напряжения; Type: SO-8
footprint SO8_2 (SOIC, 8-Leads, Body 4.9x3.9mm, Pitch 1.27mm, IPC Medium Density)
pins: 1 OUT1, 2 HYST1, 3 SET1, 4 GND, 5 HYST2, 6 SET2, 7 OUT2, 8 V+

## INA146UA
designator DA?
Дифференциальный усилитель
footprint SO8_2 (SOIC, 8-Leads, Body 4.9x3.9mm, Pitch 1.27mm, IPC Medium Density)
pins: 1 REF, 2 IN-, 3 IN+, 4 VS-, 5 Rg, 6 VO (oc), 7 VS+, 8 VO1

## INA300AIDGSR
designator DA?, comment ?
pins: 1 IN+, 2 IN-, 3 LIMIT, 4 ENABLE, 5 ~{ALERT}, 6 LATCH, 7 DELAY, 8 GND, 9 VS, 10 HYS

## INA381A1IDGSR
designator DA?, comment ?
No Description Available; Mfr_Name: Texas Instruments; RefDes: RefDes; Type: Type
footprint SOIC_1IDGSR_TEX
pins: 1 IN+, 2 VS+, 3 ~{ALERT}, 4 RESET, 5 GND, 6 NC, 7 CMPREF, 8 CMPIN, 9 VOUT, 10 IN-

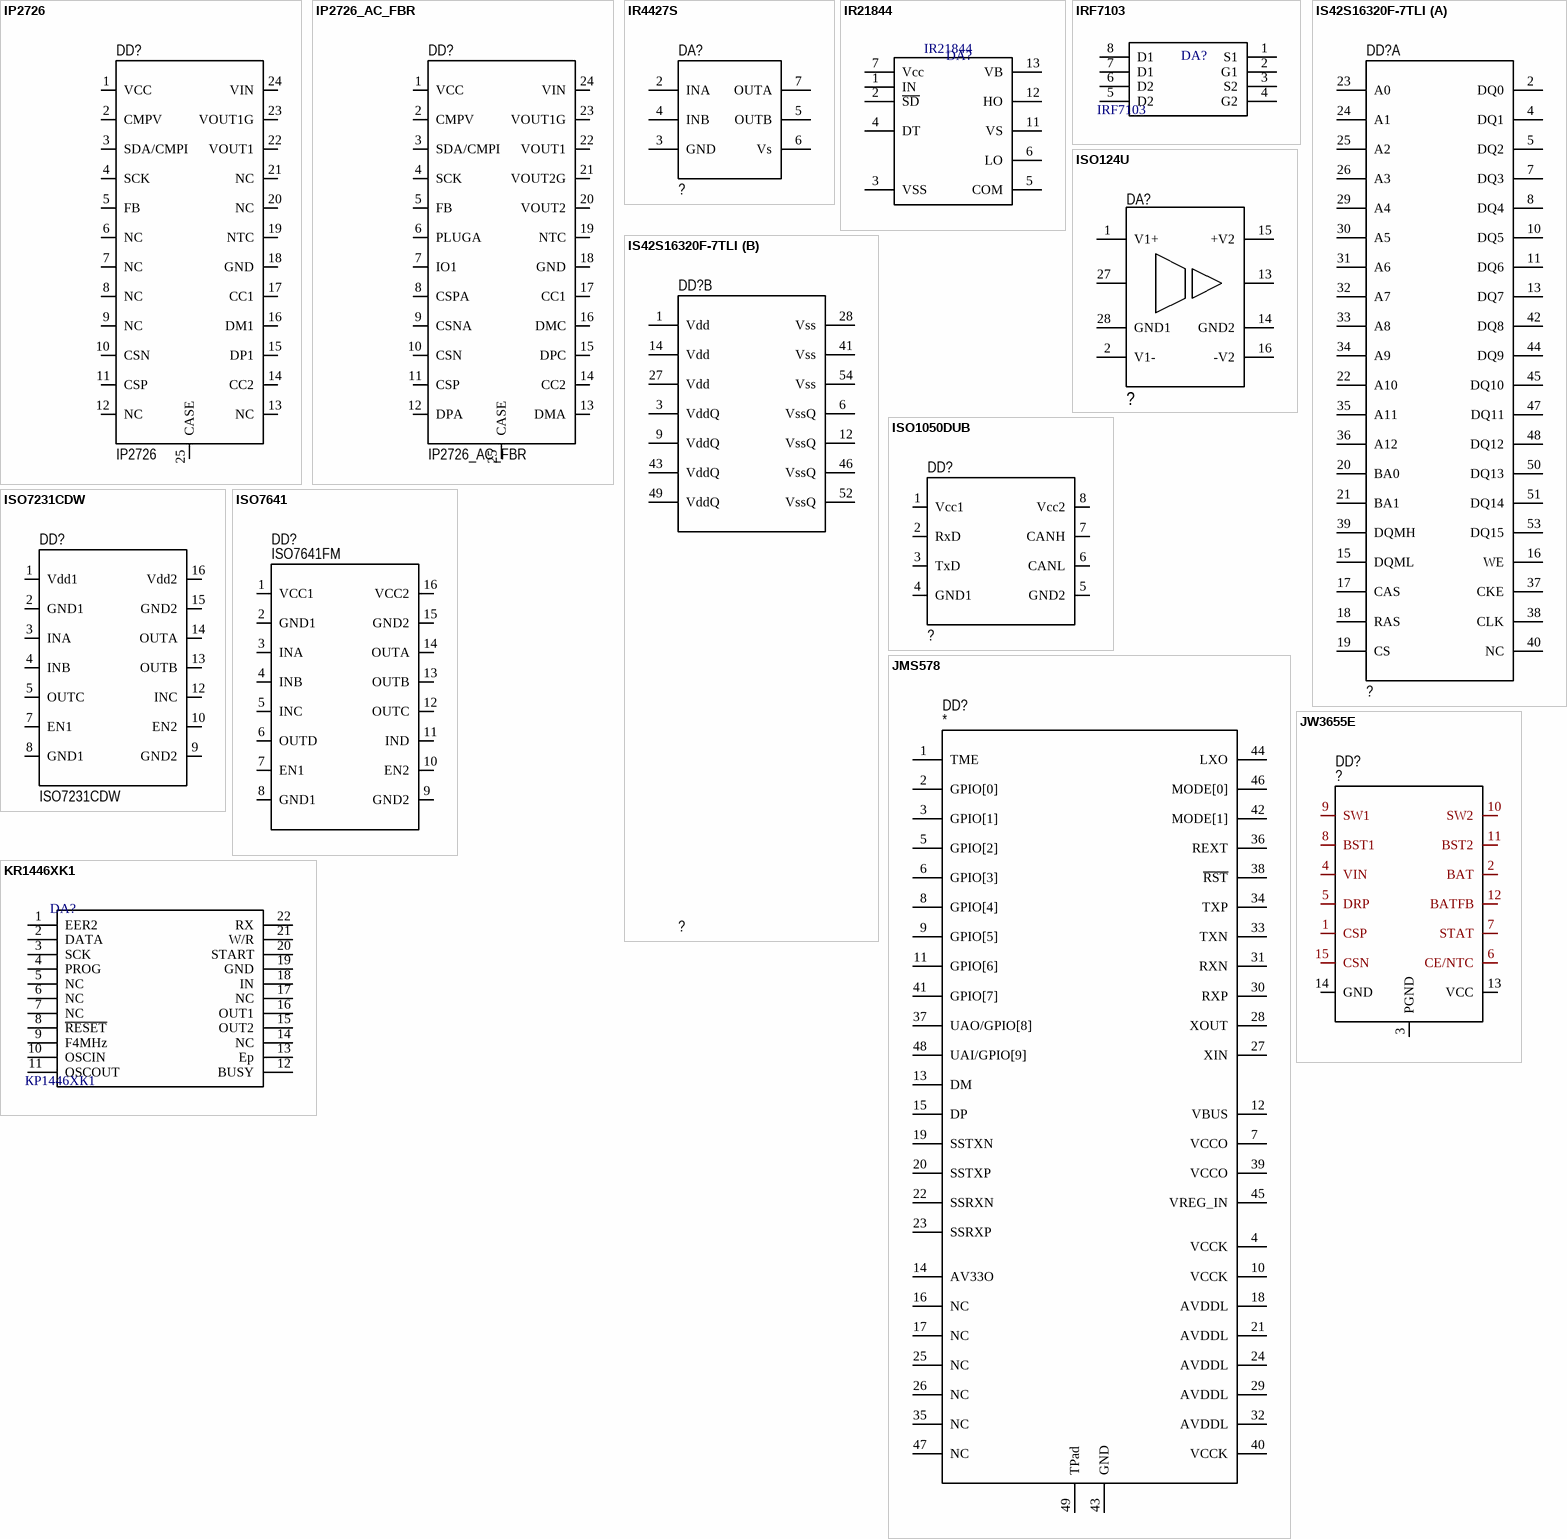
[diagram p6: symbols IP2726 to KR1446XK1]

## IP2726
designator DD?
Type: SOICW-16
pins: 1 VCC "Receiver Output", 2 CMPV "Receiver Output Enable", 3 SDA/CMPI "Driver Input", 4 SCK "Receiver Output Enable", 5 FB "Driver Output Enable", 6 NC "Driver Input", 7 NC "Driver Input", 8 NC "Ground", 9 NC "Ground", 10 CSN "Ground", 11 CSP "Ground", 12 NC "Ground", 13 NC "Ground", 14 CC2 "Ground", 15 DP1 "Ground", 16 DM1 "Ground", 17 CC1 "Ground", 18 GND "Ground", 19 NTC "Ground", 20 NC "Ground", 21 NC "Ground", 22 VOUT1 "Ground", 23 VOUT1G "Ground", 24 VIN "Ground", 25 CASE "Ground"
1 alternate drawing of the same symbol

## IP2726_AC_FBR
designator DD?
Type: SOICW-16
pins: 1 VCC "Receiver Output", 2 CMPV "Receiver Output Enable", 3 SDA/CMPI "Driver Input", 4 SCK "Receiver Output Enable", 5 FB "Driver Output Enable", 6 PLUGA "Driver Input", 7 IO1 "Driver Input", 8 CSPA "Ground", 9 CSNA "Ground", 10 CSN "Ground", 11 CSP "Ground", 12 DPA "Ground", 13 DMA "Ground", 14 CC2 "Ground", 15 DPC "Ground", 16 DMC "Ground", 17 CC1 "Ground", 18 GND "Ground", 19 NTC "Ground", 20 VOUT2 "Ground", 21 VOUT2G "Ground", 22 VOUT1 "Ground", 23 VOUT1G "Ground", 24 VIN "Ground", 25 CASE "Ground"
1 alternate drawing of the same symbol

## IR4427S
designator DA?, comment ?
pins: 2 INA, 3 GND, 4 INB, 5 OUTB, 6 Vs, 7 OUTA

## IR21844
designator DA?  value IR21844  (hidden comment: *)
footprint SO14
pins: 1 IN, 2 ~{SD}, 3 VSS, 4 DT, 5 COM, 6 LO, 7 Vcc, 11 VS, 12 HO, 13 VB

## IRF7103
designator DA?  value IRF7103  (hidden comment: *)
footprint SO8
pins: 1 S1, 2 G1, 3 S2, 4 G2, 5 D2, 6 D2, 7 D1, 8 D1

## IS42S16320F-7TLI
designator DD?, comment ?
part A pins: 2 DQ0 "Address: Selects the cells in the array to access during READ operations. During WRITE operations, they control the commands sent to the command interface of the program/erase controller.", 4 DQ1 "Address: Selects the cells in the array to access during READ operations. During WRITE operations, they control the commands sent to the command interface of the program/erase controller.", 5 DQ2 "Address: Selects the cells in the array to access during READ operations. During WRITE operations, they control the commands sent to the command interface of the program/erase controller.", 7 DQ3 "Address: Selects the cells in the array to access during READ operations. During WRITE operations, they control the commands sent to the command interface of the program/erase controller.", 8 DQ4 "Address: Selects the cells in the array to access during READ operations. During WRITE operations, they control the commands sent to the command interface of the program/erase controller.", 10 DQ5 "Address: Selects the cells in the array to access during READ operations. During WRITE operations, they control the commands sent to the command interface of the program/erase controller.", 11 DQ6 "Address: Selects the cells in the array to access during READ operations. During WRITE operations, they control the commands sent to the command interface of the program/erase controller.", 13 DQ7 "Address: Selects the cells in the array to access during READ operations. During WRITE operations, they control the commands sent to the command interface of the program/erase controller.", 15 DQML "Address: Selects the cells in the array to access during READ operations. During WRITE operations, they control the commands sent to the command interface of the program/erase controller.", 16 WE "Address: Selects the cells in the array to access during READ operations. During WRITE operations, they control the commands sent to the command interface of the program/erase controller.", 17 CAS "Address: Selects the cells in the array to access during READ operations. During WRITE operations, they control the commands sent to the command interface of the program/erase controller.", 18 RAS "Address: Selects the cells in the array to access during READ operations. During WRITE operations, they control the commands sent to the command interface of the program/erase controller.", 19 CS "Address: Selects the cells in the array to access during READ operations. During WRITE operations, they control the commands sent to the command interface of the program/erase controller.", 20 BA0 "Address: Selects the cells in the array to access during READ operations. During WRITE operations, they control the commands sent to the command interface of the program/erase controller.", 21 BA1 "Address: Selects the cells in the array to access during READ operations. During WRITE operations, they control the commands sent to the command interface of the program/erase controller.", 22 A10 "Address: Selects the cells in the array to access during READ operations. During WRITE operations, they control the commands sent to the command interface of the program/erase controller.", 23 A0 "Address: Selects the cells in the array to access during READ operations. During WRITE operations, they control the commands sent to the command interface of the program/erase controller.", 24 A1 "Address: Selects the cells in the array to access during READ operations. During WRITE operations, they control the commands sent to the command interface of the program/erase controller.", 25 A2 "Address: Selects the cells in the array to access during READ operations. During WRITE operations, they control the commands sent to the command interface of the program/erase controller.", 26 A3 "Address: Selects the cells in the array to access during READ operations. During WRITE operations, they control the commands sent to the command interface of the program/erase controller.", 29 A4 "Address: Selects the cells in the array to access during READ operations. During WRITE operations, they control the commands sent to the command interface of the program/erase controller.", 30 A5 "Address: Selects the cells in the array to access during READ operations. During WRITE operations, they control the commands sent to the command interface of the program/erase controller.", 31 A6 "Address: Selects the cells in the array to access during READ operations. During WRITE operations, they control the commands sent to the command interface of the program/erase controller.", 32 A7 "Address: Selects the cells in the array to access during READ operations. During WRITE operations, they control the commands sent to the command interface of the program/erase controller.", 33 A8 "Address: Selects the cells in the array to access during READ operations. During WRITE operations, they control the commands sent to the command interface of the program/erase controller.", 34 A9 "Address: Selects the cells in the array to access during READ operations. During WRITE operations, they control the commands sent to the command interface of the program/erase controller.", 35 A11 "Address: Selects the cells in the array to access during READ operations. During WRITE operations, they control the commands sent to the command interface of the program/erase controller.", 36 A12 "Address: Selects the cells in the array to access during READ operations. During WRITE operations, they control the commands sent to the command interface of the program/erase controller.", 37 CKE "Address: Selects the cells in the array to access during READ operations. During WRITE operations, they control the commands sent to the command interface of the program/erase controller.", 38 CLK "Address: Selects the cells in the array to access during READ operations. During WRITE operations, they control the commands sent to the command interface of the program/erase controller.", 39 DQMH "Address: Selects the cells in the array to access during READ operations. During WRITE operations, they control the commands sent to the command interface of the program/erase controller.", 40 NC "Address: Selects the cells in the array to access during READ operations. During WRITE operations, they control the commands sent to the command interface of the program/erase controller.", 42 DQ8 "Address: Selects the cells in the array to access during READ operations. During WRITE operations, they control the commands sent to the command interface of the program/erase controller.", 44 DQ9 "Address: Selects the cells in the array to access during READ operations. During WRITE operations, they control the commands sent to the command interface of the program/erase controller.", 45 DQ10 "Address: Selects the cells in the array to access during READ operations. During WRITE operations, they control the commands sent to the command interface of the program/erase controller.", 47 DQ11 "Address: Selects the cells in the array to access during READ operations. During WRITE operations, they control the commands sent to the command interface of the program/erase controller.", 48 DQ12 "Address: Selects the cells in the array to access during READ operations. During WRITE operations, they control the commands sent to the command interface of the program/erase controller.", 50 DQ13 "Address: Selects the cells in the array to access during READ operations. During WRITE operations, they control the commands sent to the command interface of the program/erase controller.", 51 DQ14 "Address: Selects the cells in the array to access during READ operations. During WRITE operations, they control the commands sent to the command interface of the program/erase controller.", 53 DQ15 "Address: Selects the cells in the array to access during READ operations. During WRITE operations, they control the commands sent to the command interface of the program/erase controller."
part B pins: 1 Vdd "Address: Selects the cells in the array to access during READ operations. During WRITE operations, they control the commands sent to the command interface of the program/erase controller.", 3 VddQ "Address: Selects the cells in the array to access during READ operations. During WRITE operations, they control the commands sent to the command interface of the program/erase controller.", 6 VssQ "Address: Selects the cells in the array to access during READ operations. During WRITE operations, they control the commands sent to the command interface of the program/erase controller.", 9 VddQ "Address: Selects the cells in the array to access during READ operations. During WRITE operations, they control the commands sent to the command interface of the program/erase controller.", 12 VssQ "Address: Selects the cells in the array to access during READ operations. During WRITE operations, they control the commands sent to the command interface of the program/erase controller.", 14 Vdd "Address: Selects the cells in the array to access during READ operations. During WRITE operations, they control the commands sent to the command interface of the program/erase controller.", 27 Vdd "Address: Selects the cells in the array to access during READ operations. During WRITE operations, they control the commands sent to the command interface of the program/erase controller.", 28 Vss "Address: Selects the cells in the array to access during READ operations. During WRITE operations, they control the commands sent to the command interface of the program/erase controller.", 41 Vss "Address: Selects the cells in the array to access during READ operations. During WRITE operations, they control the commands sent to the command interface of the program/erase controller.", 43 VddQ "Address: Selects the cells in the array to access during READ operations. During WRITE operations, they control the commands sent to the command interface of the program/erase controller.", 46 VssQ "Address: Selects the cells in the array to access during READ operations. During WRITE operations, they control the commands sent to the command interface of the program/erase controller.", 49 VddQ "Address: Selects the cells in the array to access during READ operations. During WRITE operations, they control the commands sent to the command interface of the program/erase controller.", 52 VssQ "Address: Selects the cells in the array to access during READ operations. During WRITE operations, they control the commands sent to the command interface of the program/erase controller.", 54 Vss "Address: Selects the cells in the array to access during READ operations. During WRITE operations, they control the commands sent to the command interface of the program/erase controller."

## ISO124U
designator DA?, comment ?
Precision Lowest Cost Isolation Amplifier
pins: 1 V1+, 2 V1-, 13 OUT, 14 GND2, 15 +V2, 16 -V2, 27 IN, 28 GND1

## ISO1050DUB
designator DD?, comment ?
Type: SOIC8
pins: 1 Vcc1, 2 RxD, 3 TxD, 4 GND1, 5 GND2, 6 CANL, 7 CANH, 8 Vcc2

## ISO7231CDW
designator DD?
Type: SOIC8
pins: 1 Vdd1, 2 GND1, 3 INA, 4 INB, 5 OUTC, 7 EN1, 8 GND1, 9 GND2, 10 EN2, 12 INC, 13 OUTB, 14 OUTA, 15 GND2, 16 Vdd2

## ISO7641
designator DD?, comment ISO7641FM
pins: 1 VCC1, 2 GND1, 3 INA, 4 INB, 5 INC, 6 OUTD, 7 EN1, 8 GND1, 9 GND2, 10 EN2, 11 IND, 12 OUTC, 13 OUTB, 14 OUTA, 15 GND2, 16 VCC2

## JMS578
designator DD?
pins: 1 TME, 2 GPIO[0], 3 GPIO[1], 4 VCCK, 5 GPIO[2], 6 GPIO[3], 7 VCCO, 8 GPIO[4], 9 GPIO[5], 10 VCCK, 11 GPIO[6], 12 VBUS, 13 DM, 14 AV33O, 15 DP, 16 NC, 17 NC, 18 AVDDL, 19 SSTXN, 20 SSTXP, 21 AVDDL, 22 SSRXN, 23 SSRXP, 24 AVDDL, 25 NC, 26 NC, 27 XIN, 28 XOUT, 29 AVDDL, 30 RXP, 31 RXN, 32 AVDDL, 33 TXN, 34 TXP, 35 NC, 36 REXT, 37 UAO/GPIO[8], 38 ~{RST}, 39 VCCO, 40 VCCK, 41 GPIO[7], 42 MODE[1], 43 GND, 44 LXO, 45 VREG_IN, 46 MODE[0], 47 NC, 48 UAI/GPIO[9], 49 TPad

## JW3655E
designator DD?, comment ?
pins: 1 CSP, 2 BAT, 3 PGND, 4 VIN, 5 DRP, 6 CE/NTC, 7 STAT, 8 BST1, 9 SW1, 10 SW2, 11 BST2, 12 BATFB, 13 VCC, 14 GND, 15 CSN

## KR1446XK1
designator DA?  value КР1446ХК1  (hidden comment: *)
footprint DIP-22
pins: 1 EER2, 2 DATA, 3 SCK, 4 PROG, 5 NC, 6 NC, 7 NC, 8 ~{RESET}, 9 F4MHz, 10 OSCIN, 11 OSCOUT, 12 BUSY, 13 Ep, 14 NC, 15 OUT2, 16 OUT1, 17 NC, 18 IN, 19 GND, 20 START, 21 W/R, 22 RX

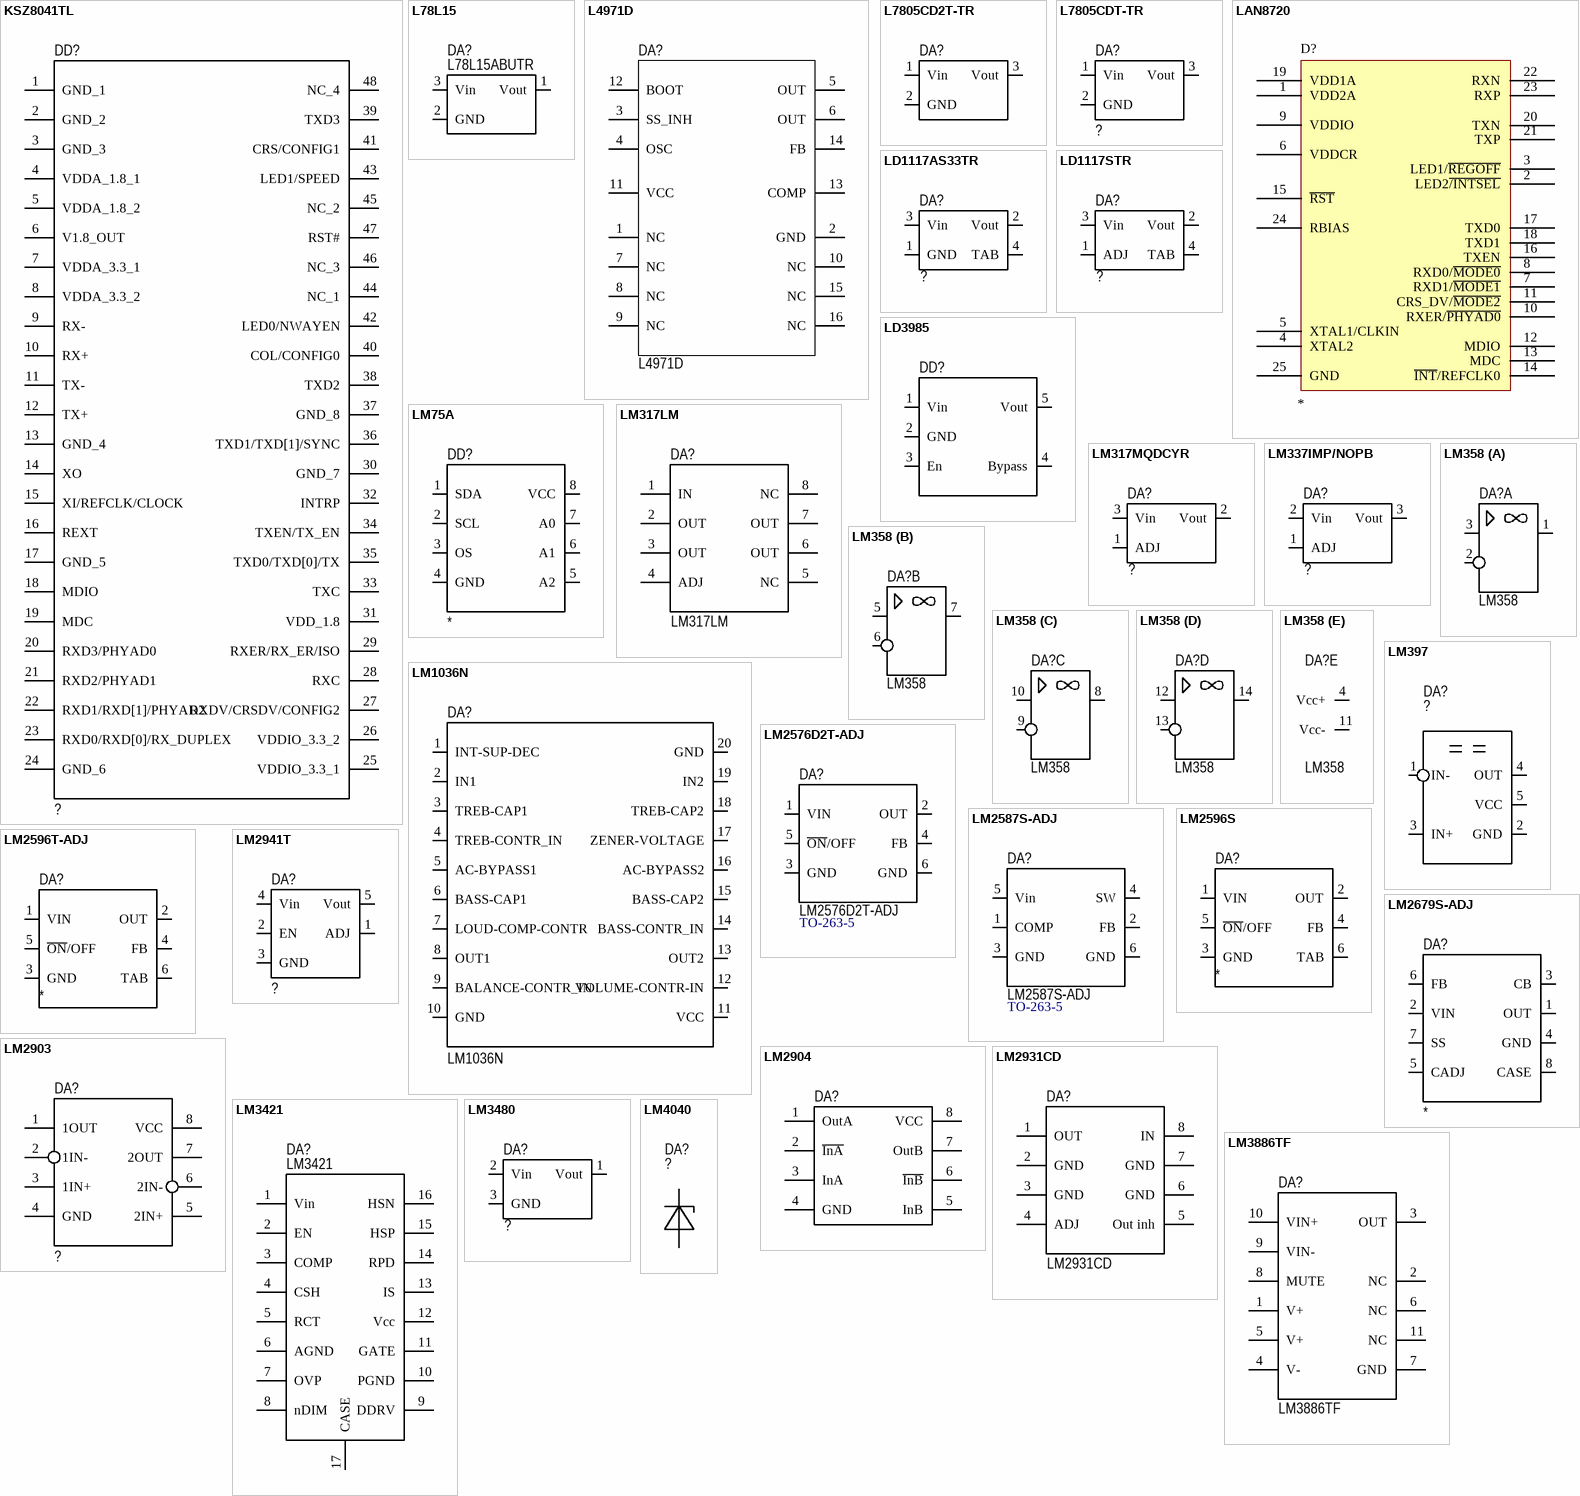
[diagram p7: symbols KSZ8041TL to LM4040]

## KSZ8041TL
designator DD?, comment ?
pins: 1 GND_1, 2 GND_2, 3 GND_3, 4 VDDA_1.8_1, 5 VDDA_1.8_2, 6 V1.8_OUT, 7 VDDA_3.3_1, 8 VDDA_3.3_2, 9 RX-, 10 RX+, 11 TX-, 12 TX+, 13 GND_4, 14 XO, 15 XI/REFCLK/CLOCK, 16 REXT, 17 GND_5, 18 MDIO, 19 MDC, 20 RXD3/PHYAD0, 21 RXD2/PHYAD1, 22 RXD1/RXD[1]/PHYAD2, 23 RXD0/RXD[0]/RX_DUPLEX, 24 GND_6, 25 VDDIO_3.3_1, 26 VDDIO_3.3_2, 27 RXDV/CRSDV/CONFIG2, 28 RXC, 29 RXER/RX_ER/ISO, 30 GND_7, 31 VDD_1.8, 32 INTRP, 33 TXC, 34 TXEN/TX_EN, 35 TXD0/TXD[0]/TX, 36 TXD1/TXD[1]/SYNC, 37 GND_8, 38 TXD2, 39 TXD3, 40 COL/CONFIG0, 41 CRS/CONFIG1, 42 LED0/NWAYEN, 43 LED1/SPEED, 44 NC_1, 45 NC_2, 46 NC_3, 47 RST#, 48 NC_4

## L78L15
designator DA?, comment L78L15ABUTR
pins: 1 Vout, 2 GND, 3 Vin

## L4971D
designator DA?
DC/DC преобразователь, понижающий, 1.5A; Case/Code: SO-16W; ComponentLink1Description: Manufacturer URL; ComponentLink1URL: http://www.st.com; ComponentLink2Description: Datasheet; ComponentLink2URL: http://www.st.com/internet/com/TECHNICAL_RESOURCES/TECHNICAL_LITERATURE/DATASHEET/CD00001355.pdf
footprint WSO16 (SOIC, 16-Leads, Body 10.3x7.5mm, Pitch 1.27mm)
pins: 1 NC, 2 GND, 3 SS_INH, 4 OSC, 5 OUT, 6 OUT, 7 NC, 8 NC, 9 NC, 10 NC, 11 VCC, 12 BOOT, 13 COMP, 14 FB, 15 NC, 16 NC

## L7805CD2T-TR
designator DA?  (value not drawn)
footprint TO-263-3
pins: 1 Vin, 2 GND, 3 Vout

## L7805CDT-TR
designator DA?, comment ?
footprint TO-252-3
pins: 1 Vin, 2 GND, 3 Vout

## LAN8720
designator D?
pins: 1 VDD2A, 2 LED2~{/INTSEL}, 3 LED1/~{REGOFF}, 4 XTAL2, 5 XTAL1/CLKIN, 6 VDDCR, 7 RXD1/~{MODE1}, 8 RXD0/~{MODE0}, 9 VDDIO, 10 RXER/~{PHYAD0}, 11 CRS_DV/~{MODE2}, 12 MDIO, 13 MDC, 14 ~{INT}/REFCLK0, 15 ~{RST}, 16 TXEN, 17 TXD0, 18 TXD1, 19 VDD1A, 20 TXN, 21 TXP, 22 RXN, 23 RXP, 24 RBIAS, 25 GND

## LD1117AS33TR
designator DA?, comment ?
footprint SOT-223
pins: 1 GND, 2 Vout, 3 Vin, 4 TAB

## LD1117STR
designator DA?, comment ?
pins: 1 ADJ, 2 Vout, 3 Vin, 4 TAB

## LD3985
designator DD?
pins: 1 Vin, 2 GND, 3 En, 4 Bypass, 5 Vout

## LM75A
designator DD?
pins: 1 SDA, 2 SCL, 3 OS, 4 GND, 5 A2, 6 A1, 7 A0, 8 VCC

## LM317LM
designator DA?
Series of Adjustable Micropower Voltage Regulator; Case/Code: SO8
footprint SO8_2 (SOIC, 8-Leads, Body 4.9x3.9mm, Pitch 1.27mm, IPC Medium Density)
pins: 1 IN, 2 OUT, 3 OUT, 4 ADJ, 5 NC, 6 OUT, 7 OUT, 8 NC

## LM317MQDCYR
designator DA?, comment ?
pins: 1 ADJ, 2 Vout, 3 Vin

## LM337IMP/NOPB
designator DA?, comment ?
pins: 1 ADJ, 2 Vin, 3 Vout

## LM358
designator DA?
footprint DIP-14 (DIP; 14 Leads; Row Spacing 7.62 mm; Pitch 2.54 mm)
footprint DIP-14_smd (DIP; 14 Leads; Row Spacing 7.62 mm; Pitch 2.54 mm)
part A pins: 1, 2, 3
part B pins: 5 2IN+, 6 2IN-, 7 2OUT
part C pins: 8 3OUT , 9 3IN−, 10 3IN+
part D pins: 12 4IN+, 13 4IN−, 14 4OUT
part E pins: 4 Vcc+, 11 Vcc-
1 alternate drawing of the same symbol

## LM397
designator DA?, comment ?
Компаратор
pins: 1 IN-, 2 GND, 3 IN+, 4 OUT, 5 VCC
1 alternate drawing of the same symbol

## LM1036N
designator DA?
Type: DIP20
footprint DIP-20 (DIP; 20 Leads; Pitch 2.54 mm)
pins: 1 INT-SUP-DEC, 2 IN1, 3 TREB-CAP1, 4 TREB-CONTR_IN, 5 AC-BYPASS1, 6 BASS-CAP1, 7 LOUD-COMP-CONTR, 8 OUT1, 9 BALANCE-CONTR_IN, 10 GND, 11 VCC, 12 VOLUME-CONTR-IN, 13 OUT2, 14 BASS-CONTR_IN, 15 BASS-CAP2, 16 AC-BYPASS2, 17 ZENER-VOLTAGE, 18 TREB-CAP2, 19 IN2, 20 GND

## LM2576D2T-ADJ
designator DA?  Type: TO-263-5
Easy Switcher 3.0A Step-Down Voltage Regulator
footprint D2PAK-5 (D2-PAK; 5 Leads; Body 14.7 (inc. leads) x 10.2 mm (LxW max))
pins: 1 VIN, 2 OUT, 3 GND, 4 FB, 5 ~{ON}/OFF, 6 GND

## LM2587S-ADJ
designator DA?  Type: TO-263-5
Easy Switcher 3.0A Step-Up Voltage Regulator
footprint D2PAK-5 (D2-PAK; 5 Leads; Body 14.7 (inc. leads) x 10.2 mm (LxW max))
pins: 1 COMP, 2 FB, 3 GND, 4 SW, 5 Vin, 6 GND

## LM2596S
designator DA?
Easy Switcher 3.0A Step-Down Voltage Regulator
pins: 1 VIN, 2 OUT, 3 GND, 4 FB, 5 ~{ON}/OFF, 6 TAB
1 alternate drawing of the same symbol

## LM2596T-ADJ
designator DA?
Easy Switcher 3.0A Step-Down Voltage Regulator
pins: 1 VIN, 2 OUT, 3 GND, 4 FB, 5 ~{ON}/OFF, 6 TAB
1 alternate drawing of the same symbol

## LM2679S-ADJ
designator DA?
Easy Switcher 5.0A Step-Down Voltage Regulator
pins: 1 OUT, 2 VIN, 3 CB, 4 GND, 5 CADJ, 6 FB, 7 SS, 8 CASE
1 alternate drawing of the same symbol

## LM2903
designator DA?, comment ?
pins: 1 1OUT, 2 1IN-, 3 1IN+, 4 GND, 5 2IN+, 6 2IN-, 7 2OUT, 8 VCC

## LM2904
designator DA?  (value not drawn)
footprint SO8
pins: 1 OutA, 2 ~{InA}, 3 InA, 4 GND, 5 InB, 6 ~{InB}, 7 OutB, 8 VCC

## LM2931CD
designator DA?
Series of Adjustable Micropower Voltage Regulator; Case/Code: SO8
footprint SO8_2 (SOIC, 8-Leads, Body 4.9x3.9mm, Pitch 1.27mm, IPC Medium Density)
pins: 1 OUT, 2 GND, 3 GND, 4 ADJ, 5 Out inh, 6 GND, 7 GND, 8 IN

## LM2941T
designator DA?, comment ?
pins: 1 ADJ, 2 EN, 3 GND, 4 Vin, 5 Vout

## LM3421
designator DA?
ШИМ-регулятор тока светодиодов, 4,5-75 В
pins: 1 Vin, 2 EN, 3 COMP, 4 CSH, 5 RCT, 6 AGND, 7 OVP, 8 nDIM, 9 DDRV, 10 PGND, 11 GATE, 12 Vcc, 13 IS, 14 RPD, 15 HSP, 16 HSN, 17 CASE

## LM3480
designator DA?, comment ?
pins: 1 Vout, 2 Vin, 3 GND